# Altium schematic symbol library pwr_reg_pmic.SchLib: 30 symbols
Pins are listed as number, name and electrical type; pins without a type are passive.

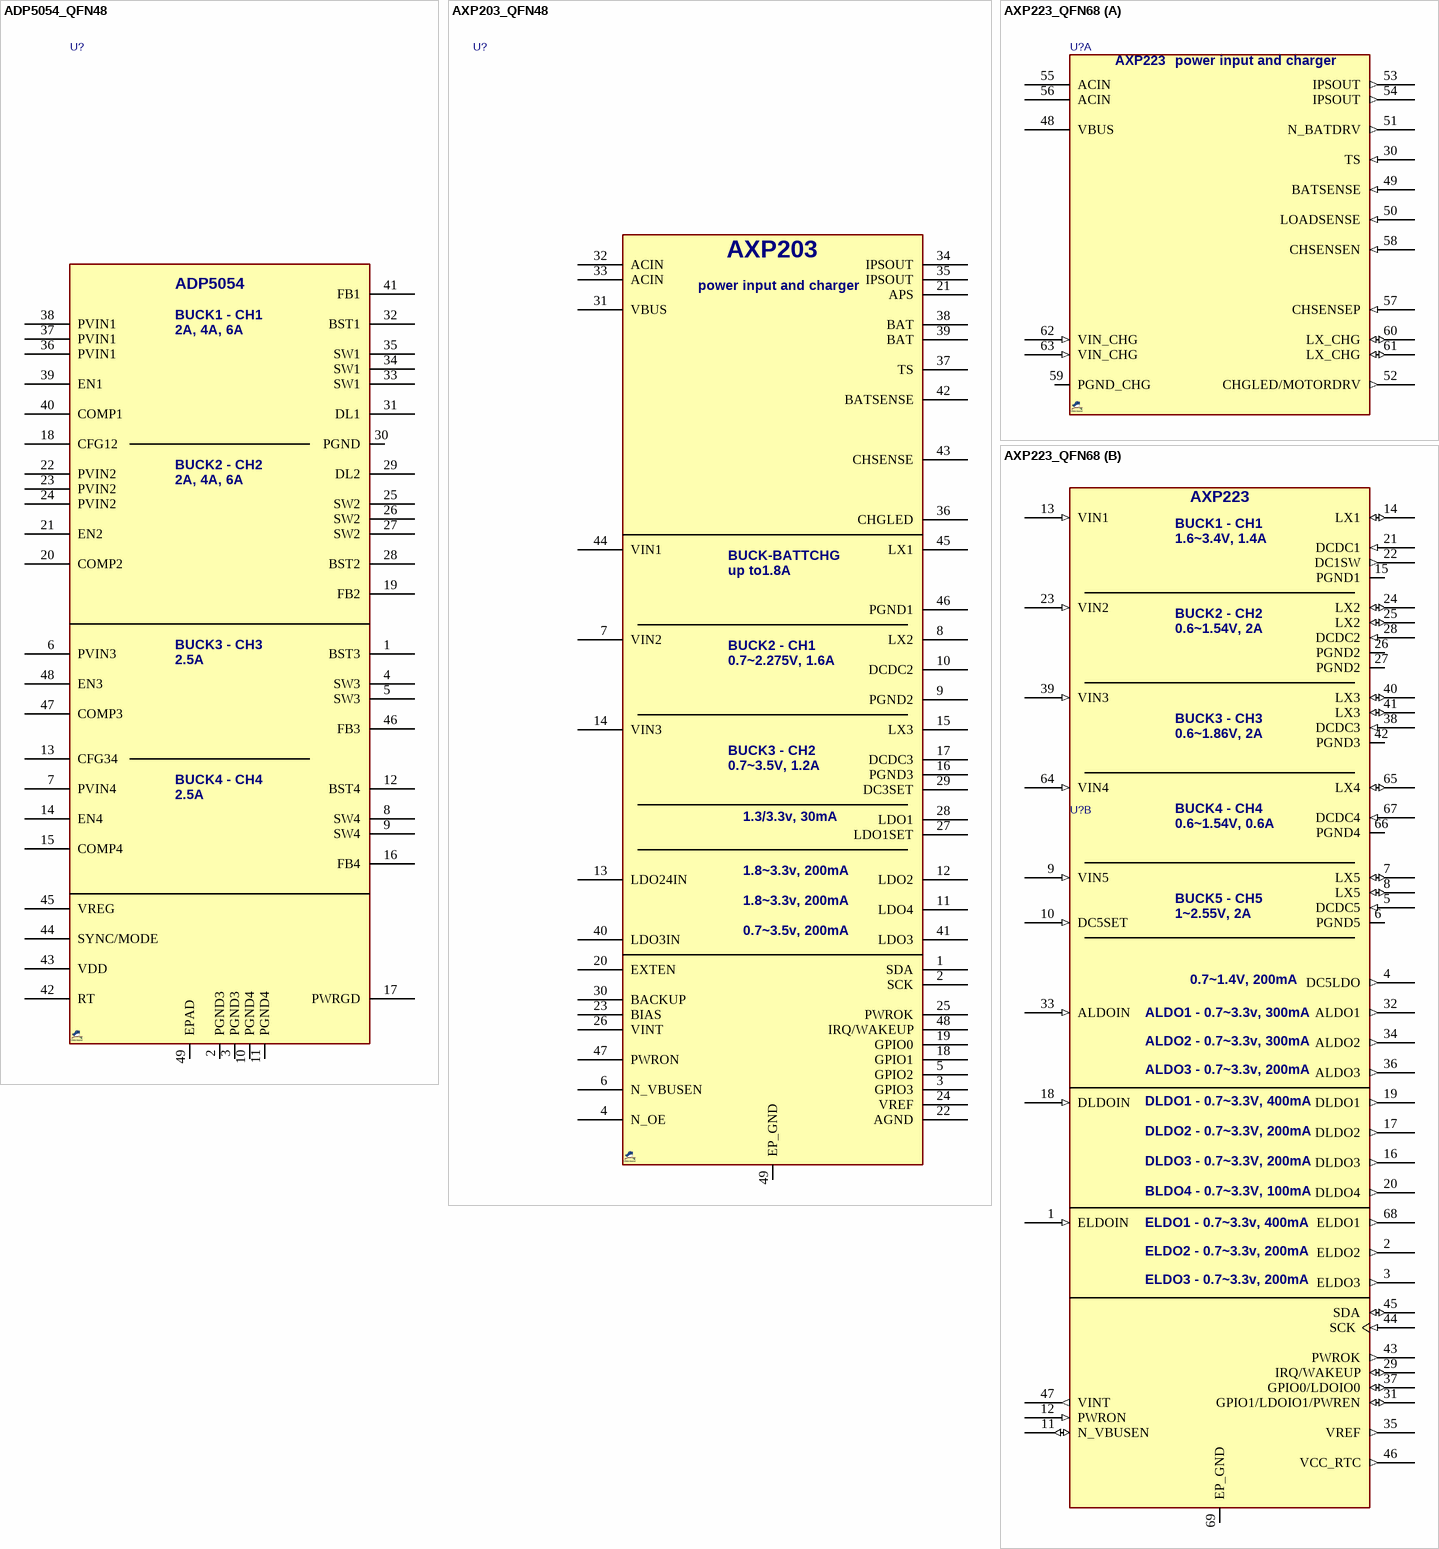
[diagram p0: symbols ADP5054_QFN48 to AXP223_QFN68]

## ADP5054_QFN48
designator U?, comment ADP5054  (value not drawn)
IC, Regulator PMIC, 4buck, 2x 6A, 2x 2.5A; MANF: Analog Device; MANF_P#: ADP5054ACPZ; PARAM2: 4.5~15Vin,; PARAM: 4buck, 2x 6A, 2x 2.5A, -40~125°C; PRICE: -; VALUE: ADP5054; PACKAGE: QFN-48, 0.5mm pitch
footprint QFN50_48T (CP-48 (Analog Device),, MO-220-VKKD-2(JEDEC), RGZ S-PQFP-N48, S-PWQFN-N48(TI), 7X7mm, 0.5mm)
pins: 1 BST3, 2 PGND3, 3 PGND3, 4 SW3, 5 SW3, 6 PVIN3, 7 PVIN4, 8 SW4, 9 SW4, 10 PGND4, 11 PGND4, 12 BST4, 13 CFG34, 14 EN4, 15 COMP4, 16 FB4, 17 PWRGD, 18 CFG12, 19 FB2, 20 COMP2, 21 EN2, 22 PVIN2, 23 PVIN2, 24 PVIN2, 25 SW2, 26 SW2, 27 SW2, 28 BST2, 29 DL2, 30 PGND, 31 DL1, 32 BST1, 33 SW1, 34 SW1, 35 SW1, 36 PVIN1, 37 PVIN1, 38 PVIN1, 39 EN1, 40 COMP1, 41 FB1, 42 RT, 43 VDD, 44 SYNC/MODE, 45 VREG, 46 FB3, 47 COMP3, 48 EN3, 49 EPAD
text: BUCK1 - CH1; 2A, 4A, 6A; BUCK2 - CH2; BUCK3 - CH3; 2.5A; BUCK4 - CH4

## AXP203_QFN48
designator U?, comment AXP203  (value not drawn)
IC, Regulator PMIC, 3DCDC + 5LDO; MANF: X-Powers; PARAM2: 2.9~6.3Vin, 3 DCDC + 5 LDO; PARAM: -40~85°C; MANF_P#: AXP203; PRICE: 1.2$; VALUE: AXP203; PACKAGE: QFN-48, 0.4mm pitch
footprint QFN40_48T (QFN, 48-Leads, Body 6.00x6.00mm, Pitch 0.40mm, Thermal Pad 4.40x4.40mm)
pins: 1 SDA, 2 SCK, 3 GPIO3, 4 N_OE, 5 GPIO2, 6 N_VBUSEN, 7 VIN2, 8 LX2, 9 PGND2, 10 DCDC2, 11 LDO4, 12 LDO2, 13 LDO24IN, 14 VIN3, 15 LX3, 16 PGND3, 17 DCDC3, 18 GPIO1, 19 GPIO0, 20 EXTEN, 21 APS, 22 AGND, 23 BIAS, 24 VREF, 25 PWROK, 26 VINT, 27 LDO1SET, 28 LDO1, 29 DC3SET, 30 BACKUP, 31 VBUS, 32 ACIN, 33 ACIN, 34 IPSOUT, 35 IPSOUT, 36 CHGLED, 37 TS, 38 BAT, 39 BAT, 40 LDO3IN, 41 LDO3, 42 BATSENSE, 43 CHSENSE, 44 VIN1, 45 LX1, 46 PGND1, 47 PWRON, 48 IRQ/WAKEUP, 49 EP_GND
text: power input and charger; BUCK-BATTCHG; up to1.8A; BUCK2 - CH1; 0.7~2.275V, 1.6A; BUCK3 - CH2; 0.7~3.5V, 1.2A; 1.3/3.3v, 30mA; 1.8~3.3v, 200mA; 0.7~3.5v, 200mA

## AXP223_QFN68
designator U?, comment AXP223  (value not drawn)
IC, Regulator PMIC, 5DCDC + 10LDO; MANF: X-Powers; PARAM2: 2.9~6.3Vin, 5 DCDC + 10 LDO; PARAM: -20~80°C; MANF_P#: AXP223; VALUE: AXP223; PACKAGE: QFN-68, 0.4mm pitch
footprint QFN40_68T (QFN-68, pitch 0.4mm, 8x8x0.75mm)
part A pins: 30 TS (in), 48 VBUS (power), 49 BATSENSE (in), 50 LOADSENSE (in), 51 N_BATDRV (out), 52 CHGLED/MOTORDRV (out), 53 IPSOUT (out), 54 IPSOUT (out), 55 ACIN (power), 56 ACIN (power), 57 CHSENSEP (in), 58 CHSENSEN (in), 59 PGND_CHG (power), 60 LX_CHG (io), 61 LX_CHG (io), 62 VIN_CHG (in), 63 VIN_CHG (in)
part B pins: 1 ELDOIN (in), 2 ELDO2 (out), 3 ELDO3 (out), 4 DC5LDO (out), 5 DCDC5 (in), 6 PGND5 (power), 7 LX5 (io), 8 LX5 (io), 9 VIN5 (in), 10 DC5SET (in), 11 N_VBUSEN (io), 12 PWRON (in), 13 VIN1 (in), 14 LX1 (io), 15 PGND1 (power), 16 DLDO3 (out), 17 DLDO2 (out), 18 DLDOIN (in), 19 DLDO1 (out), 20 DLDO4 (out), 21 DCDC1 (in), 22 DC1SW (out), 23 VIN2 (in), 24 LX2 (io), 25 LX2 (io), 26 PGND2 (power), 27 PGND2 (power), 28 DCDC2 (in), 29 IRQ/WAKEUP (io), 31 GPIO1/LDOIO1/PWREN (io), 32 ALDO1 (out), 33 ALDOIN (in), 34 ALDO2 (out), 35 VREF (out), 36 ALDO3 (out), 37 GPIO0/LDOIO0 (io), 38 DCDC3 (in), 39 VIN3 (in), 40 LX3 (io), 41 LX3 (io), 42 PGND3 (power), 43 PWROK (out), 44 SCK (in), 45 SDA (io), 46 VCC_RTC (out), 47 VINT (out), 64 VIN4 (in), 65 LX4 (io), 66 PGND4 (power), 67 DCDC4 (in), 68 ELDO1 (out), 69 EP_GND (power)
part A text: power input and charger
part B text: BUCK1 - CH1; 1.6~3.4V, 1.4A; BUCK2 - CH2; 0.6~1.54V, 2A; BUCK3 - CH3; 0.6~1.86V, 2A; BUCK4 - CH4; 0.6~1.54V, 0.6A; BUCK5 - CH5; 1~2.55V, 2A; 0.7~1.4V, 200mA; ALDO1 - 0.7~3.3v, 300mA; ALDO2 - 0.7~3.3v, 300mA; ALDO3 - 0.7~3.3v, 200mA; DLDO1 - 0.7~3.3V, 400mA; DLDO2 - 0.7~3.3V, 200mA; DLDO3 - 0.7~3.3V, 200mA; BLDO4 - 0.7~3.3V, 100mA; ELDO1 - 0.7~3.3v, 400mA; ELDO2 - 0.7~3.3v, 200mA; ELDO3 - 0.7~3.3v, 200mA

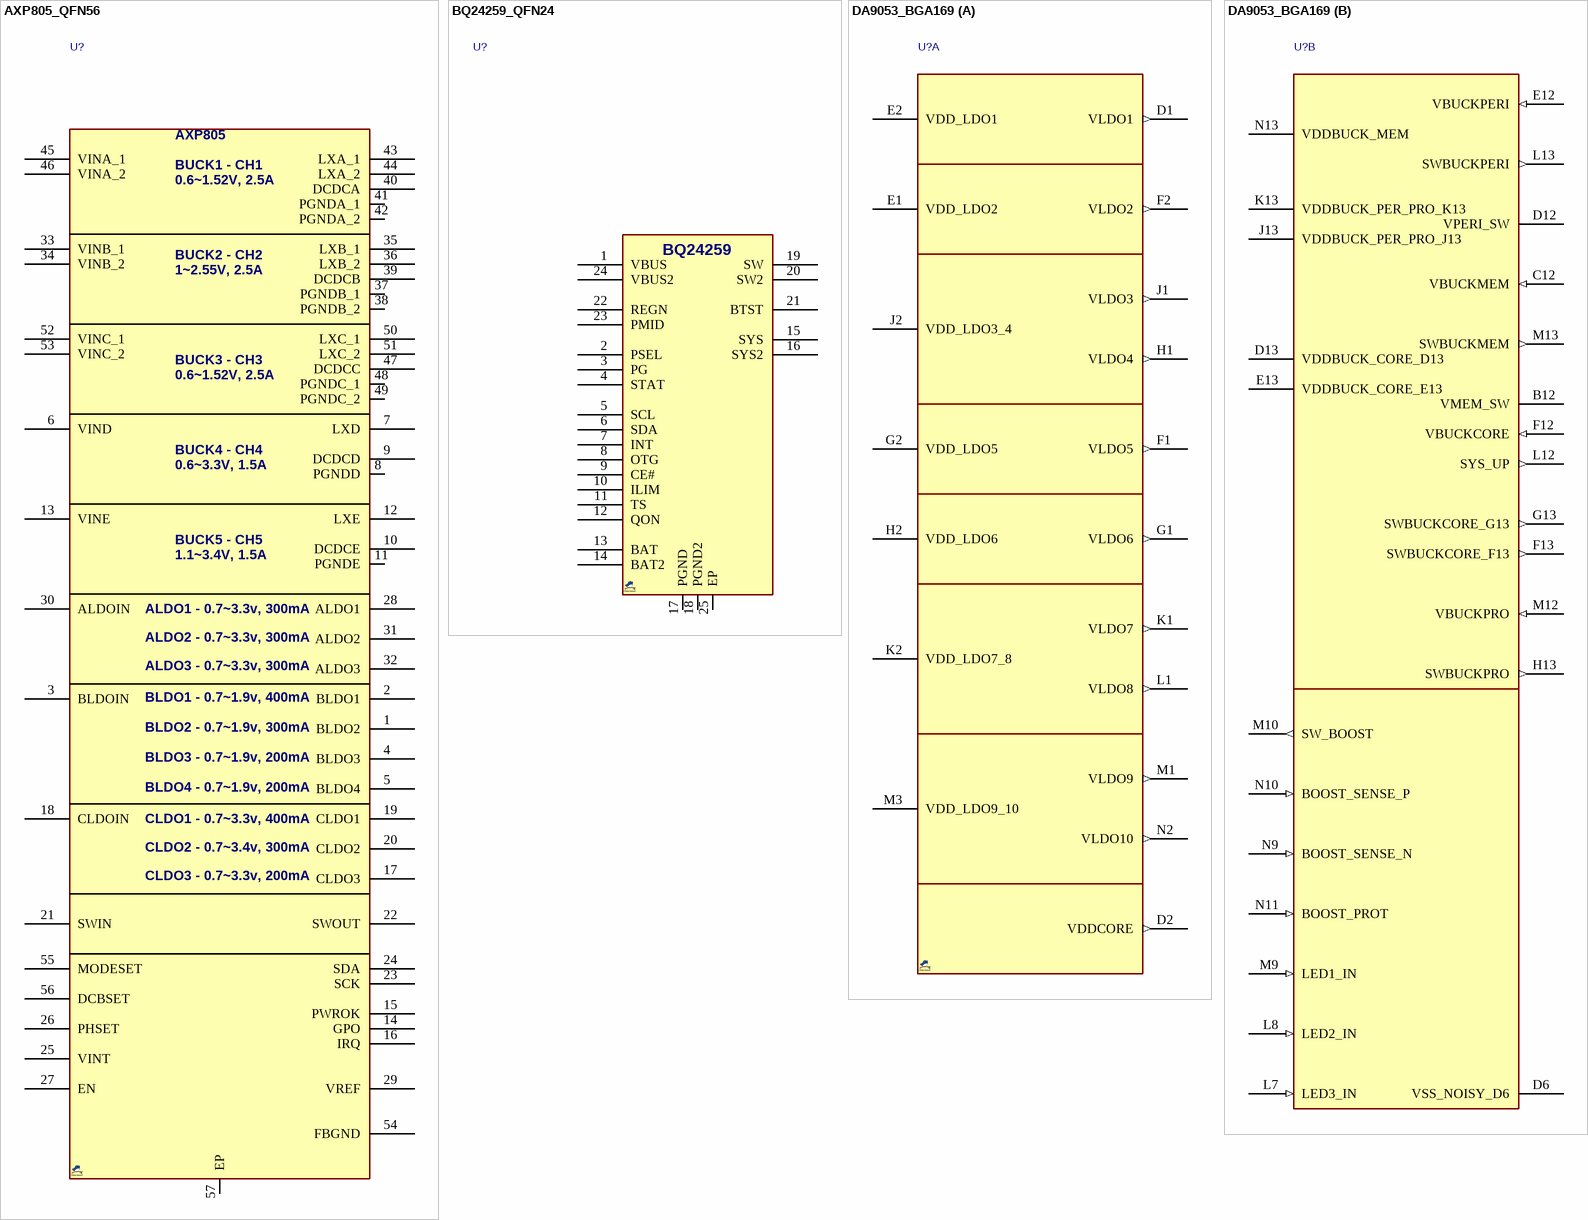
[diagram p1: symbols AXP805_QFN56 to DA9053_BGA169]

## AXP805_QFN56
designator U?, comment AXP805  (value not drawn)
IC, Regulator PMIC, 5DCDC, 10LDO; MANF: X-Powers; PARAM2: 3~5.5Vin, 5 DCDC/ 10 LDO; PARAM: -40~85°C; MANF_P#: AXP805; PRICE: 3$; VALUE: AXP805; PACKAGE: QFN-56, 0.4mm pitch
footprint QFN40_56T (QFN-56 7*7,  pitch: 0.4mm, 7x7x0.8mm)
pins: 1 BLDO2, 2 BLDO1, 3 BLDOIN, 4 BLDO3, 5 BLDO4, 6 VIND, 7 LXD, 8 PGNDD, 9 DCDCD, 10 DCDCE, 11 PGNDE, 12 LXE, 13 VINE, 14 GPO, 15 PWROK, 16 IRQ, 17 CLDO3, 18 CLDOIN, 19 CLDO1, 20 CLDO2, 21 SWIN, 22 SWOUT, 23 SCK, 24 SDA, 25 VINT, 26 PHSET, 27 EN, 28 ALDO1, 29 VREF, 30 ALDOIN, 31 ALDO2, 32 ALDO3, 33 VINB_1, 34 VINB_2, 35 LXB_1, 36 LXB_2, 37 PGNDB_1, 38 PGNDB_2, 39 DCDCB, 40 DCDCA, 41 PGNDA_1, 42 PGNDA_2, 43 LXA_1, 44 LXA_2, 45 VINA_1, 46 VINA_2, 47 DCDCC, 48 PGNDC_1, 49 PGNDC_2, 50 LXC_1, 51 LXC_2, 52 VINC_1, 53 VINC_2, 54 FBGND, 55 MODESET, 56 DCBSET, 57 EP
text: BUCK1 - CH1; 0.6~1.52V, 2.5A; BUCK2 - CH2; 1~2.55V, 2.5A; BUCK3 - CH3; BUCK4 - CH4; 0.6~3.3V, 1.5A; BUCK5 - CH5; 1.1~3.4V, 1.5A; ALDO1 - 0.7~3.3v, 300mA; ALDO2 - 0.7~3.3v, 300mA; ALDO3 - 0.7~3.3v, 300mA; BLDO1 - 0.7~1.9v, 400mA; BLDO2 - 0.7~1.9v, 300mA; BLDO3 - 0.7~1.9v, 200mA; BLDO4 - 0.7~1.9v, 200mA; CLDO1 - 0.7~3.3v, 400mA; CLDO2 - 0.7~3.4v, 300mA; CLDO3 - 0.7~3.3v, 200mA

## BQ24259_QFN24
designator U?, comment BQ24259  (value not drawn)
IC, CHARGER and Boost for USB mobile; MANF: Texas Instruments; MANF_P#: BQ24259RGE; PARAM: 2A chg, 1.5A boost, -40~85°C; PARAM2: -; PRICE: 0.5$; VALUE: BQ24259; PACKAGE: VQFN-24
footprint QFN50_24T (RTW, RGE S-PQFP-N24 (TI), HVQFN24, 4X4mm, 0.5mm, MO-220 (JEDEC))
pins: 1 VBUS, 2 PSEL, 3 PG, 4 STAT, 5 SCL, 6 SDA, 7 INT, 8 OTG, 9 CE#, 10 ILIM, 11 TS, 12 QON, 13 BAT, 14 BAT2, 15 SYS, 16 SYS2, 17 PGND, 18 PGND2, 19 SW, 20 SW2, 21 BTST, 22 REGN, 23 PMID, 24 VBUS2, 25 EP

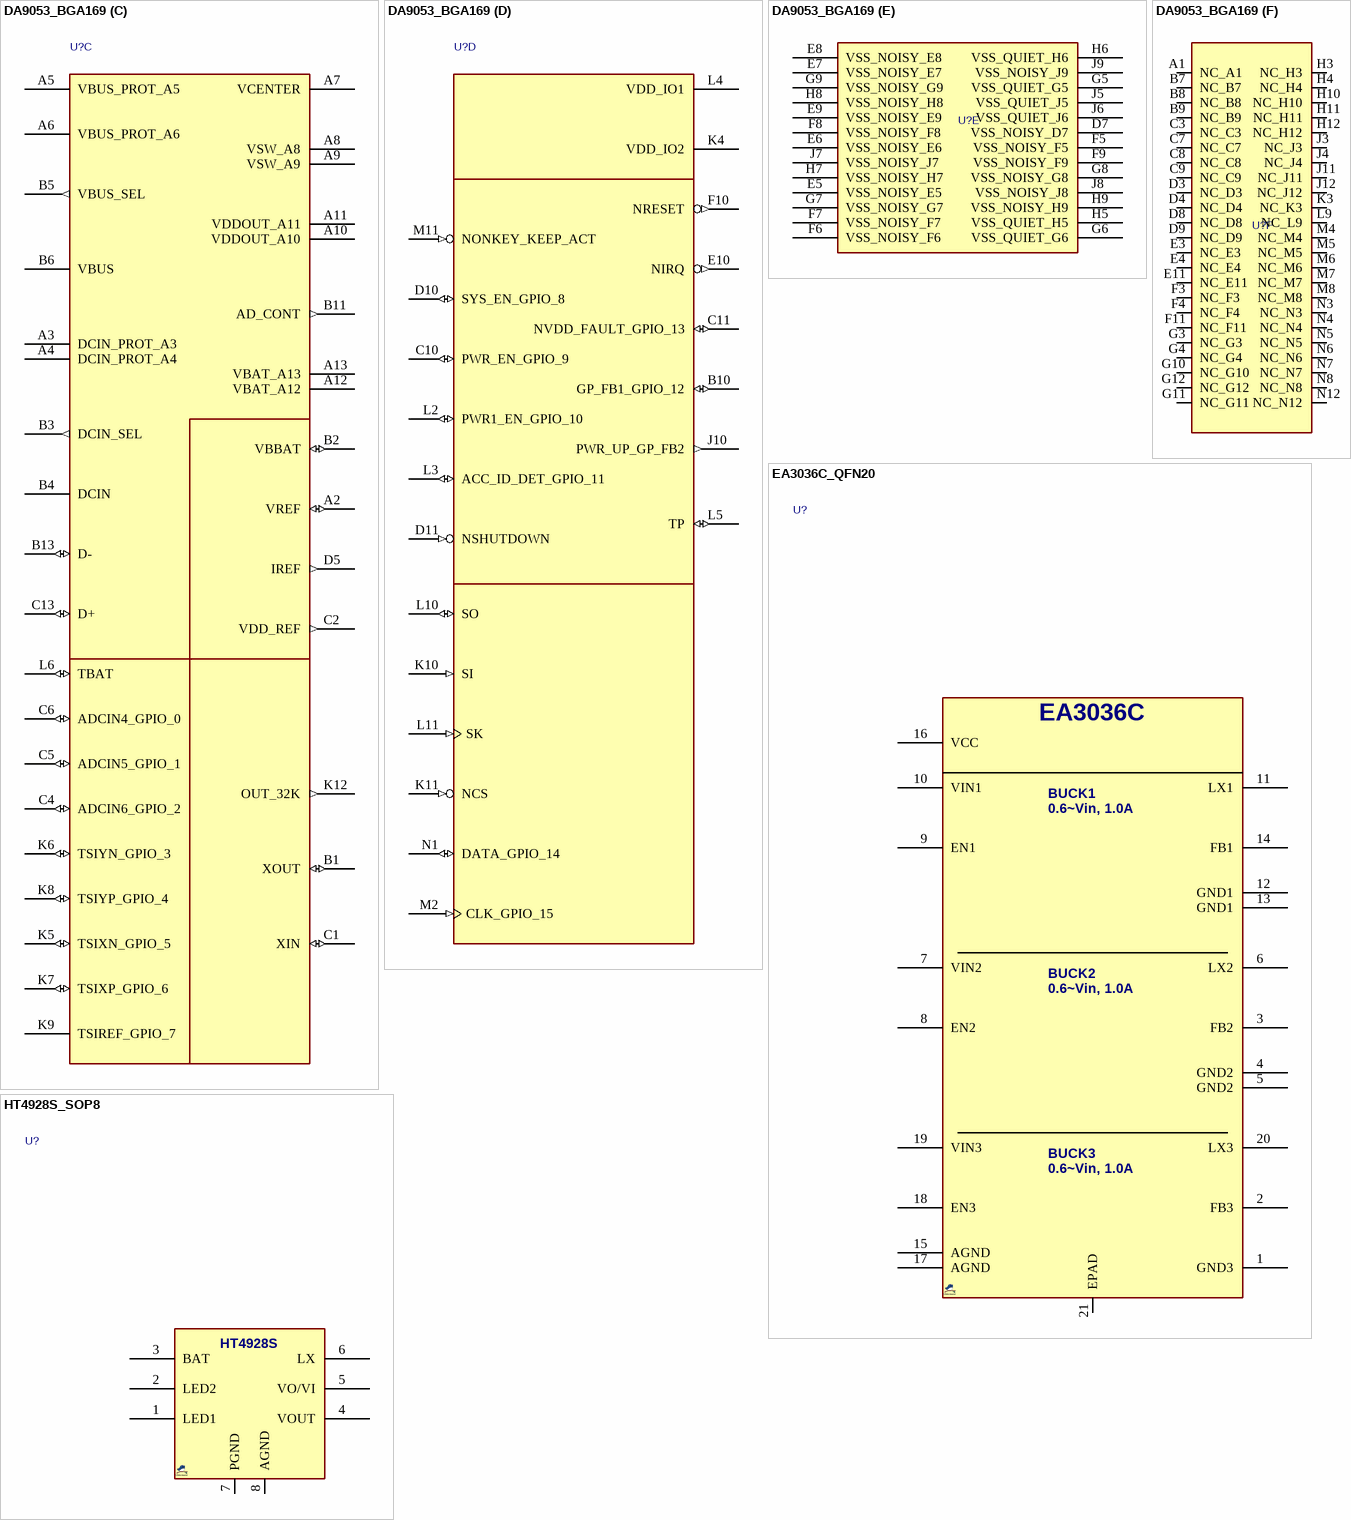
[diagram p2: symbols DA9053_BGA169 to HT4928S_SOP8]

## DA9053_BGA169
designator U?, comment DA9053  (value not drawn)
IC, Regulator PMIC, sw USB PWR MANAGER 5.5V VFBGA169; MANF: Dialog Semiconductor; MANF_P#: DA9053-XXC51; VALUE: DA9053; PACKAGE: BGA-169, 0.8mm pitch
footprint BGA80_169_S11
part A pins: D1 VLDO1 (out), D2 VDDCORE (out), E1 VDD_LDO2 (power), E2 VDD_LDO1 (power), F1 VLDO5 (out), F2 VLDO2 (out), G1 VLDO6 (out), G2 VDD_LDO5 (power), H1 VLDO4 (out), H2 VDD_LDO6 (power), J1 VLDO3 (out), J2 VDD_LDO3_4 (power), K1 VLDO7 (out), K2 VDD_LDO7_8 (power), L1 VLDO8 (out), M1 VLDO9 (out), M3 VDD_LDO9_10 (power), N2 VLDO10 (out)
part B pins: B12 VMEM_SW (power), C12 VBUCKMEM (in), D6 VSS_NOISY_D6 (power), D12 VPERI_SW (power), D13 VDDBUCK_CORE_D13 (power), E12 VBUCKPERI (in), E13 VDDBUCK_CORE_E13 (power), F12 VBUCKCORE (in), F13 SWBUCKCORE_F13 (out), G13 SWBUCKCORE_G13 (out), H13 SWBUCKPRO (out), J13 VDDBUCK_PER_PRO_J13 (power), K13 VDDBUCK_PER_PRO_K13 (power), L7 LED3_IN (in), L8 LED2_IN (in), L12 SYS_UP (out), L13 SWBUCKPERI (out), M9 LED1_IN (in), M10 SW_BOOST (out), M12 VBUCKPRO (in), M13 SWBUCKMEM (out), N9 BOOST_SENSE_N (in), N10 BOOST_SENSE_P (in), N11 BOOST_PROT (in), N13 VDDBUCK_MEM (power)
part C pins: A2 VREF (io), A3 DCIN_PROT_A3 (power), A4 DCIN_PROT_A4 (power), A5 VBUS_PROT_A5 (power), A6 VBUS_PROT_A6 (power), A7 VCENTER (power), A8 VSW_A8 (power), A9 VSW_A9 (power), A10 VDDOUT_A10 (power), A11 VDDOUT_A11 (power), A12 VBAT_A12 (power), A13 VBAT_A13 (power), B1 XOUT (io), B2 VBBAT (io), B3 DCIN_SEL (out), B4 DCIN (power), B5 VBUS_SEL (out), B6 VBUS (power), B11 AD_CONT (out), B13 D- (io), C1 XIN (io), C2 VDD_REF (out), C4 ADCIN6_GPIO_2 (io), C5 ADCIN5_GPIO_1 (io), C6 ADCIN4_GPIO_0 (io), C13 D+ (io), D5 IREF (out), K5 TSIXN_GPIO_5 (io), K6 TSIYN_GPIO_3 (io), K7 TSIXP_GPIO_6 (io), K8 TSIYP_GPIO_4 (io), K9 TSIREF_GPIO_7 (power), K12 OUT_32K (out), L6 TBAT (io)
part D pins: B10 GP_FB1_GPIO_12 (io), C10 PWR_EN_GPIO_9 (io), C11 NVDD_FAULT_GPIO_13 (io), D10 SYS_EN_GPIO_8 (io), D11 NSHUTDOWN (in), E10 NIRQ (out), F10 NRESET (out), J10 PWR_UP_GP_FB2 (out), K4 VDD_IO2 (power), K10 SI (in), K11 NCS (in), L2 PWR1_EN_GPIO_10 (io), L3 ACC_ID_DET_GPIO_11 (io), L4 VDD_IO1 (power), L5 TP (io), L10 SO (io), L11 SK (in), M2 CLK_GPIO_15 (in), M11 NONKEY_KEEP_ACT (in), N1 DATA_GPIO_14 (io)
part E pins: D7 VSS_NOISY_D7 (power), E5 VSS_NOISY_E5 (power), E6 VSS_NOISY_E6 (power), E7 VSS_NOISY_E7 (power), E8 VSS_NOISY_E8 (power), E9 VSS_NOISY_E9 (power), F5 VSS_NOISY_F5 (power), F6 VSS_NOISY_F6 (power), F7 VSS_NOISY_F7 (power), F8 VSS_NOISY_F8 (power), F9 VSS_NOISY_F9 (power), G5 VSS_QUIET_G5 (power), G6 VSS_QUIET_G6 (power), G7 VSS_NOISY_G7 (power), G8 VSS_NOISY_G8 (power), G9 VSS_NOISY_G9 (power), H5 VSS_QUIET_H5 (power), H6 VSS_QUIET_H6 (power), H7 VSS_NOISY_H7 (power), H8 VSS_NOISY_H8 (power), H9 VSS_NOISY_H9 (power), J5 VSS_QUIET_J5 (power), J6 VSS_QUIET_J6 (power), J7 VSS_NOISY_J7 (power), J8 VSS_NOISY_J8 (power), J9 VSS_NOISY_J9 (power)
part F pins: A1 NC_A1, B7 NC_B7, B8 NC_B8, B9 NC_B9, C3 NC_C3, C7 NC_C7, C8 NC_C8, C9 NC_C9, D3 NC_D3, D4 NC_D4, D8 NC_D8, D9 NC_D9, E3 NC_E3, E4 NC_E4, E11 NC_E11, F3 NC_F3, F4 NC_F4, F11 NC_F11, G3 NC_G3, G4 NC_G4, G10 NC_G10, G11 NC_G11, G12 NC_G12, H3 NC_H3, H4 NC_H4, H10 NC_H10, H11 NC_H11, H12 NC_H12, J3 NC_J3, J4 NC_J4, J11 NC_J11, J12 NC_J12, K3 NC_K3, L9 NC_L9, M4 NC_M4, M5 NC_M5, M6 NC_M6, M7 NC_M7, M8 NC_M8, N3 NC_N3, N4 NC_N4, N5 NC_N5, N6 NC_N6, N7 NC_N7, N8 NC_N8, N12 NC_N12

## EA3036C_QFN20
designator U?, comment EA3036C  (value not drawn)
IC, Regulator PMIC, 3DCDC 1.5MHz, total must be under 6W; MANF: Everanalog; MANF_P#: EA3036CQBR; PARAM2: 2.7~5.5Vin, 3 DCDC 1.5MHz; PARAM: -40~85°C; PRICE: 0.2$; VALUE: EA3036C; PACKAGE: QFN-20, 0.4mm pitch
footprint QFN40_20T (QFN, RUK, PWQFN, 20-Leads, Body 3X3mm, Pitch 0.40mm)
pins: 1 GND3, 2 FB3, 3 FB2, 4 GND2, 5 GND2, 6 LX2, 7 VIN2, 8 EN2, 9 EN1, 10 VIN1, 11 LX1, 12 GND1, 13 GND1, 14 FB1, 15 AGND, 16 VCC, 17 AGND, 18 EN3, 19 VIN3, 20 LX3, 21 EPAD
text: BUCK1; 0.6~Vin, 1.0A; BUCK2; BUCK3

## HT4928S_SOP8
designator U?, comment HT4928S  (value not drawn)
IC, CHARGER and Boost for USB mobile; MANF: HOTCHIP; PARAM: 0.8A, 1MHz, -40~85°C; MANF_P#: HT4928S; PARAM2: -; PRICE: 0.35$; VALUE: HT4928S; PACKAGE: SOP-8
footprint SO_8 (SOP-8, 5x3.9mm body 1.27mm pitch, SOT96-1, M08A, S8, SOIC8, VO8, MS-012AA(JEDEC), R-8, 8S2, VOG8)
pins: 1 LED1, 2 LED2, 3 BAT, 4 VOUT, 5 VO/VI, 6 LX, 7 PGND, 8 AGND

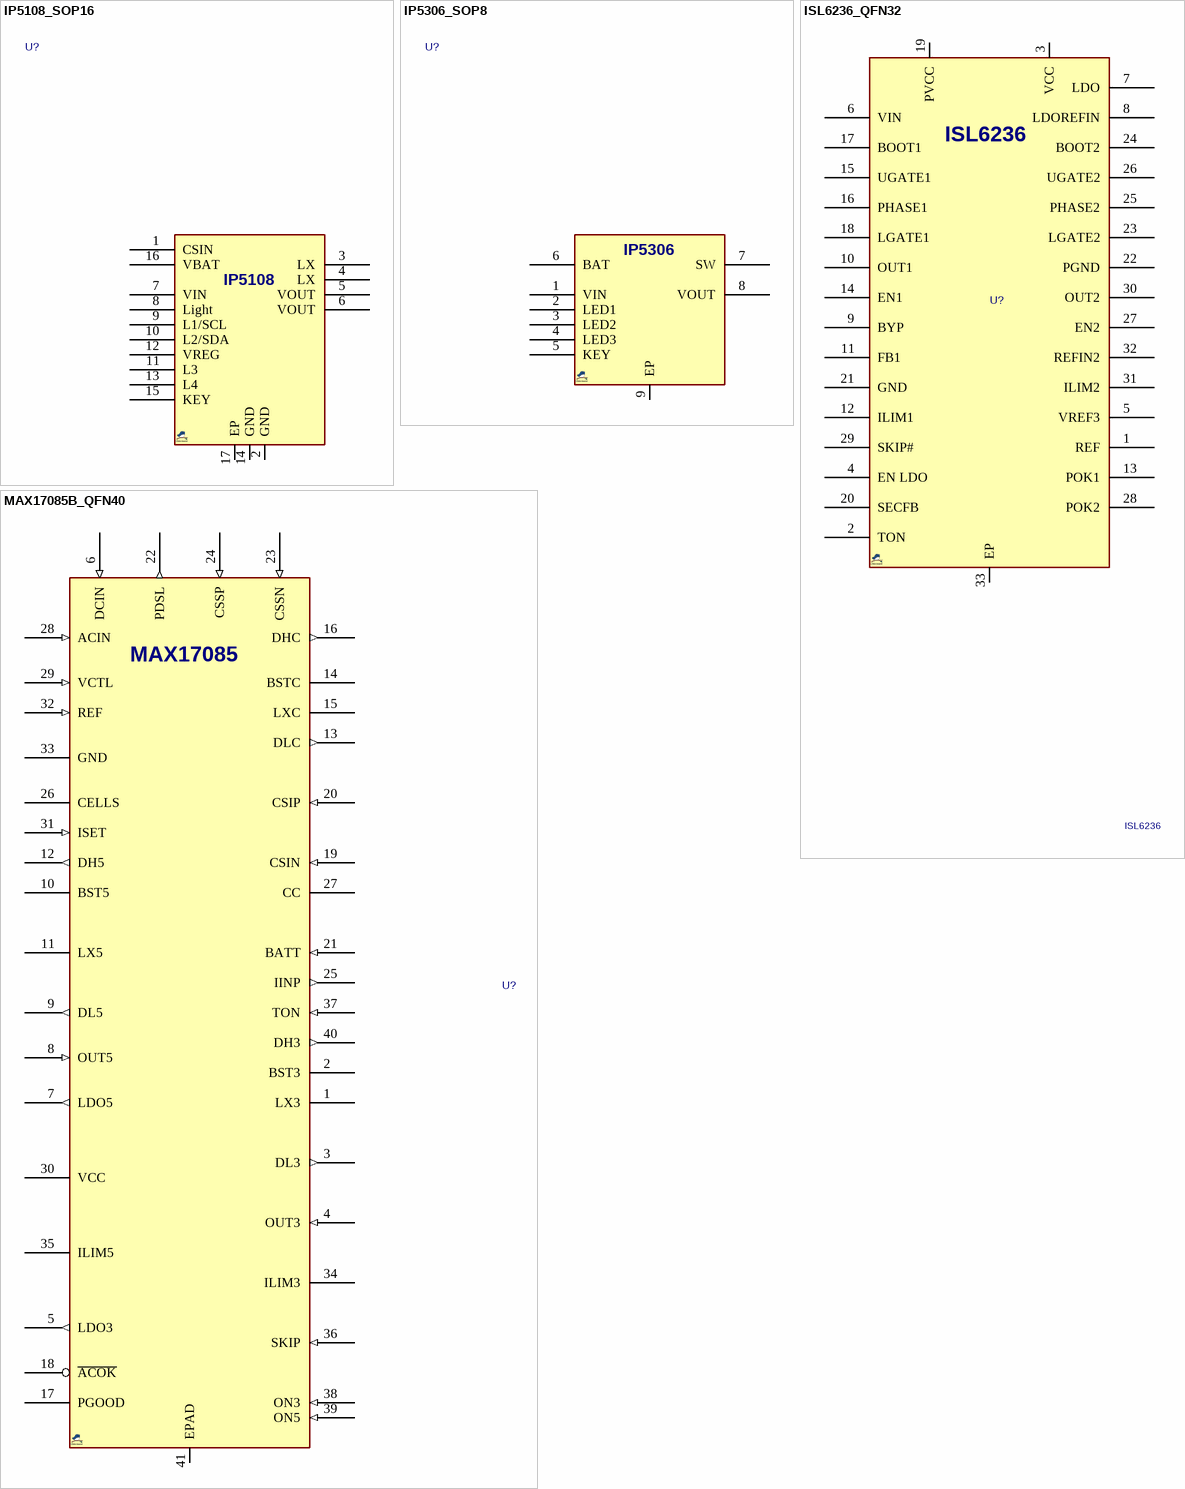
[diagram p3: symbols IP5108_SOP16 to MAX17085B_QFN40]

## IP5108_SOP16
designator U?, comment IP5108  (value not drawn)
IC, CHARGER and Boost for USB mobile; MANF: INJOINIC; PARAM: 2.1A chg, 2.4A boost, 0~70°C; MANF_P#: IP5108; PARAM2: -; PRICE: 0.2$; VALUE: IP5108; PACKAGE: eSOP-8
footprint SO_16T (SOP, SOIC, 3.9mm width, 1.27mm pitch,)
pins: 1 CSIN, 2 GND, 3 LX, 4 LX, 5 VOUT, 6 VOUT, 7 VIN, 8 Light, 9 L1/SCL, 10 L2/SDA, 11 L3, 12 VREG, 13 L4, 14 GND, 15 KEY, 16 VBAT, 17 EP

## IP5306_SOP8
designator U?, comment IP5306  (value not drawn)
IC, CHARGER and Boost for USB mobile; PARAM: 2.1A chg, 2.4A boost, 0~70°C; MANF_P#: IP5306; PARAM2: -; PRICE: 0.2$; VALUE: IP5306; PACKAGE: eSOP-8
footprint SO_8T (SOP-8, 5x3.9mm body 1.27mm pitch, DDA, SO PowerPAD)
pins: 1 VIN, 2 LED1, 3 LED2, 4 LED3, 5 KEY, 6 BAT, 7 SW, 8 VOUT, 9 EP

## ISL6236_QFN32
designator U?, comment ISL6236
IC, Regulator PMIC, 4 output; MANF: Intersil; MANF_P#: ISL6236AIRZ; PARAM2: 4.5V~25Vin, 4 Vout; PARAM: -40~100°C; VALUE: ISL6236; PRICE: 5$; PACKAGE: QFN-32, 0.5mm pitch
footprint QFN50_32T (QFN, 32, 5X5mm, 0.5mm)
pins: 1 REF, 2 TON, 3 VCC, 4 EN LDO, 5 VREF3, 6 VIN, 7 LDO, 8 LDOREFIN, 9 BYP, 10 OUT1, 11 FB1, 12 ILIM1, 13 POK1, 14 EN1, 15 UGATE1, 16 PHASE1, 17 BOOT1, 18 LGATE1, 19 PVCC, 20 SECFB, 21 GND, 22 PGND, 23 LGATE2, 24 BOOT2, 25 PHASE2, 26 UGATE2, 27 EN2, 28 POK2, 29 SKIP#, 30 OUT2, 31 ILIM2, 32 REFIN2, 33 EP

## MAX17085B_QFN40
designator U?, comment MAX17085  (value not drawn)
IC, Regulator PMIC, CHARGER, 2 LDO 3.3/5V + 2 buck, TQFN40; MANF: Maxim; MANF_P#: MAX17085BETL+; PARAM2: 2 buck, 1.4MHZ; VALUE: MAX17085; PACKAGE: QFN-40, 0.4mm pitch
footprint QFN40_40T (40 TQFN-EP (maxim), 5X5mm, 0.4mm)
pins: 1 LX3, 2 BST3, 3 DL3 (out), 4 OUT3 (in), 5 LDO3 (out), 6 DCIN (in), 7 LDO5 (out), 8 OUT5 (in), 9 DL5 (out), 10 BST5, 11 LX5, 12 DH5 (out), 13 DLC (out), 14 BSTC, 15 LXC, 16 DHC (out), 17 PGOOD (oc), 18 ~{ACOK} (oc), 19 CSIN (in), 20 CSIP (in), 21 BATT (in), 22 PDSL (out), 23 CSSN (in), 24 CSSP (in), 25 IINP (out), 26 CELLS, 27 CC, 28 ACIN (in), 29 VCTL (in), 30 VCC (power), 31 ISET (in), 32 REF (in), 33 GND (power), 34 ILIM3, 35 ILIM5, 36 SKIP (in), 37 TON (in), 38 ON3 (in), 39 ON5 (in), 40 DH3 (out), 41 EPAD (power)

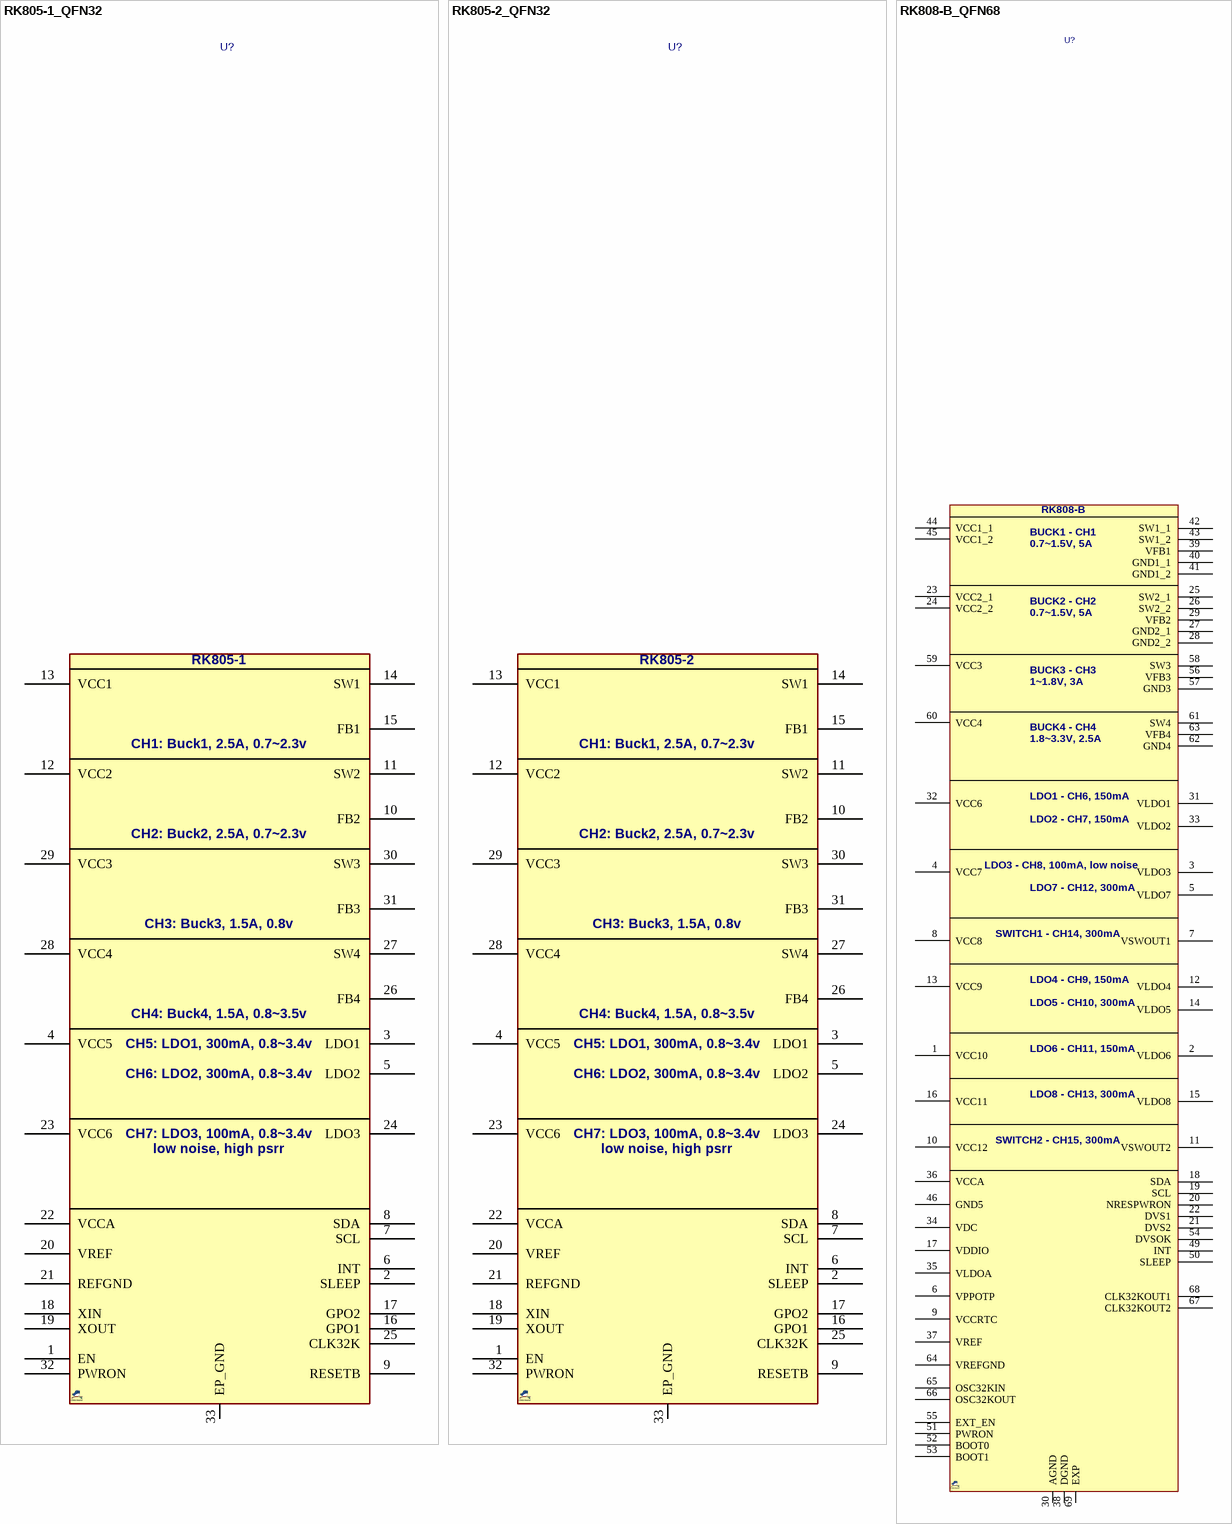
[diagram p4: symbols RK805-1_QFN32 to RK808-B_QFN68]

## RK805-1_QFN32
designator U?, comment RK805-1  (value not drawn)
IC, Regulator PMIC, for RK3228; MANF: Rockchip; PARAM2: 2.75~5.5Vin, 4 DCDC/ 3 LDO; PARAM: RK3228, -40~85°C; MANF_P#: RK805-1; PRICE: -; VALUE: RK805-1; PACKAGE: QFN-32, 0.4mm pitch
footprint QFN40_32T (QFN, 32M3, 32-Leads, Body 4x4mm, Pitch 0.40mm)
pins: 1 EN, 2 SLEEP, 3 LDO1, 4 VCC5, 5 LDO2, 6 INT, 7 SCL, 8 SDA, 9 RESETB, 10 FB2, 11 SW2, 12 VCC2, 13 VCC1, 14 SW1, 15 FB1, 16 GPO1, 17 GPO2, 18 XIN, 19 XOUT, 20 VREF, 21 REFGND, 22 VCCA, 23 VCC6, 24 LDO3, 25 CLK32K, 26 FB4, 27 SW4, 28 VCC4, 29 VCC3, 30 SW3, 31 FB3, 32 PWRON, 33 EP_GND
text: CH1: Buck1, 2.5A, 0.7~2.3v; CH2: Buck2, 2.5A, 0.7~2.3v; CH3: Buck3, 1.5A, 0.8v; CH4: Buck4, 1.5A, 0.8~3.5v; CH5: LDO1, 300mA, 0.8~3.4v; CH6: LDO2, 300mA, 0.8~3.4v; CH7: LDO3, 100mA, 0.8~3.4v; low noise, high psrr

## RK805-2_QFN32
designator U?, comment RK805-2  (value not drawn)
IC, Regulator PMIC, for RK1108; MANF: Rockchip; PARAM2: 2.75~5.5Vin, 4 DCDC/ 3 LDO; PARAM: RK1108, -40~85°C; MANF_P#: RK805-2; PRICE: -; VALUE: RK805-2; PACKAGE: QFN-32, 0.4mm pitch
footprint QFN40_32T (QFN, 32M3, 32-Leads, Body 4x4mm, Pitch 0.40mm)
pins: 1 EN, 2 SLEEP, 3 LDO1, 4 VCC5, 5 LDO2, 6 INT, 7 SCL, 8 SDA, 9 RESETB, 10 FB2, 11 SW2, 12 VCC2, 13 VCC1, 14 SW1, 15 FB1, 16 GPO1, 17 GPO2, 18 XIN, 19 XOUT, 20 VREF, 21 REFGND, 22 VCCA, 23 VCC6, 24 LDO3, 25 CLK32K, 26 FB4, 27 SW4, 28 VCC4, 29 VCC3, 30 SW3, 31 FB3, 32 PWRON, 33 EP_GND
text: CH1: Buck1, 2.5A, 0.7~2.3v; CH2: Buck2, 2.5A, 0.7~2.3v; CH3: Buck3, 1.5A, 0.8v; CH4: Buck4, 1.5A, 0.8~3.5v; CH5: LDO1, 300mA, 0.8~3.4v; CH6: LDO2, 300mA, 0.8~3.4v; CH7: LDO3, 100mA, 0.8~3.4v; low noise, high psrr

## RK808-B_QFN68
designator U?, comment RK808  (value not drawn)
IC, Regulator PMIC, RK3288/RK3368; MANF: Rockchip; MANF_P#: RK808-B; PARAM2: 2.75~5.5Vin, 4 DCDC/ 8 LDO, 2 switch; PARAM: RK3288/RK3368, -40~85°C; PRICE: -; VALUE: RK808; PACKAGE: QFN-68, 0.35mm pitch
footprint QFN35_68T (QFN, 68-Leads, 7x7mm, Pitch 0.35mm,)
pins: 1 VCC10, 2 VLDO6, 3 VLDO3, 4 VCC7, 5 VLDO7, 6 VPPOTP, 7 VSWOUT1, 8 VCC8, 9 VCCRTC, 10 VCC12, 11 VSWOUT2, 12 VLDO4, 13 VCC9, 14 VLDO5, 15 VLDO8, 16 VCC11, 17 VDDIO, 18 SDA, 19 SCL, 20 NRESPWRON, 21 DVS2, 22 DVS1, 23 VCC2_1, 24 VCC2_2, 25 SW2_1, 26 SW2_2, 27 GND2_1, 28 GND2_2, 29 VFB2, 30 AGND, 31 VLDO1, 32 VCC6, 33 VLDO2, 34 VDC, 35 VLDOA, 36 VCCA, 37 VREF, 38 DGND, 39 VFB1, 40 GND1_1, 41 GND1_2, 42 SW1_1, 43 SW1_2, 44 VCC1_1, 45 VCC1_2, 46 GND5, 49 INT, 50 SLEEP, 51 PWRON, 52 BOOT0, 53 BOOT1, 54 DVSOK, 55 EXT_EN, 56 VFB3, 57 GND3, 58 SW3, 59 VCC3, 60 VCC4, 61 SW4, 62 GND4, 63 VFB4, 64 VREFGND, 65 OSC32KIN, 66 OSC32KOUT, 67 CLK32KOUT2, 68 CLK32KOUT1, 69 EXP
text: BUCK1 - CH1; 0.7~1.5V, 5A; BUCK2 - CH2; BUCK3 - CH3; 1~1.8V, 3A; BUCK4 - CH4; 1.8~3.3V, 2.5A; LDO1 - CH6, 150mA; LDO2 - CH7, 150mA; LDO3 - CH8, 100mA, low noise; LDO7 - CH12, 300mA; SWITCH1 - CH14, 300mA; LDO4 - CH9, 150mA; LDO5 - CH10, 300mA; LDO6 - CH11, 150mA; LDO8 - CH13, 300mA; SWITCH2 - CH15, 300mA

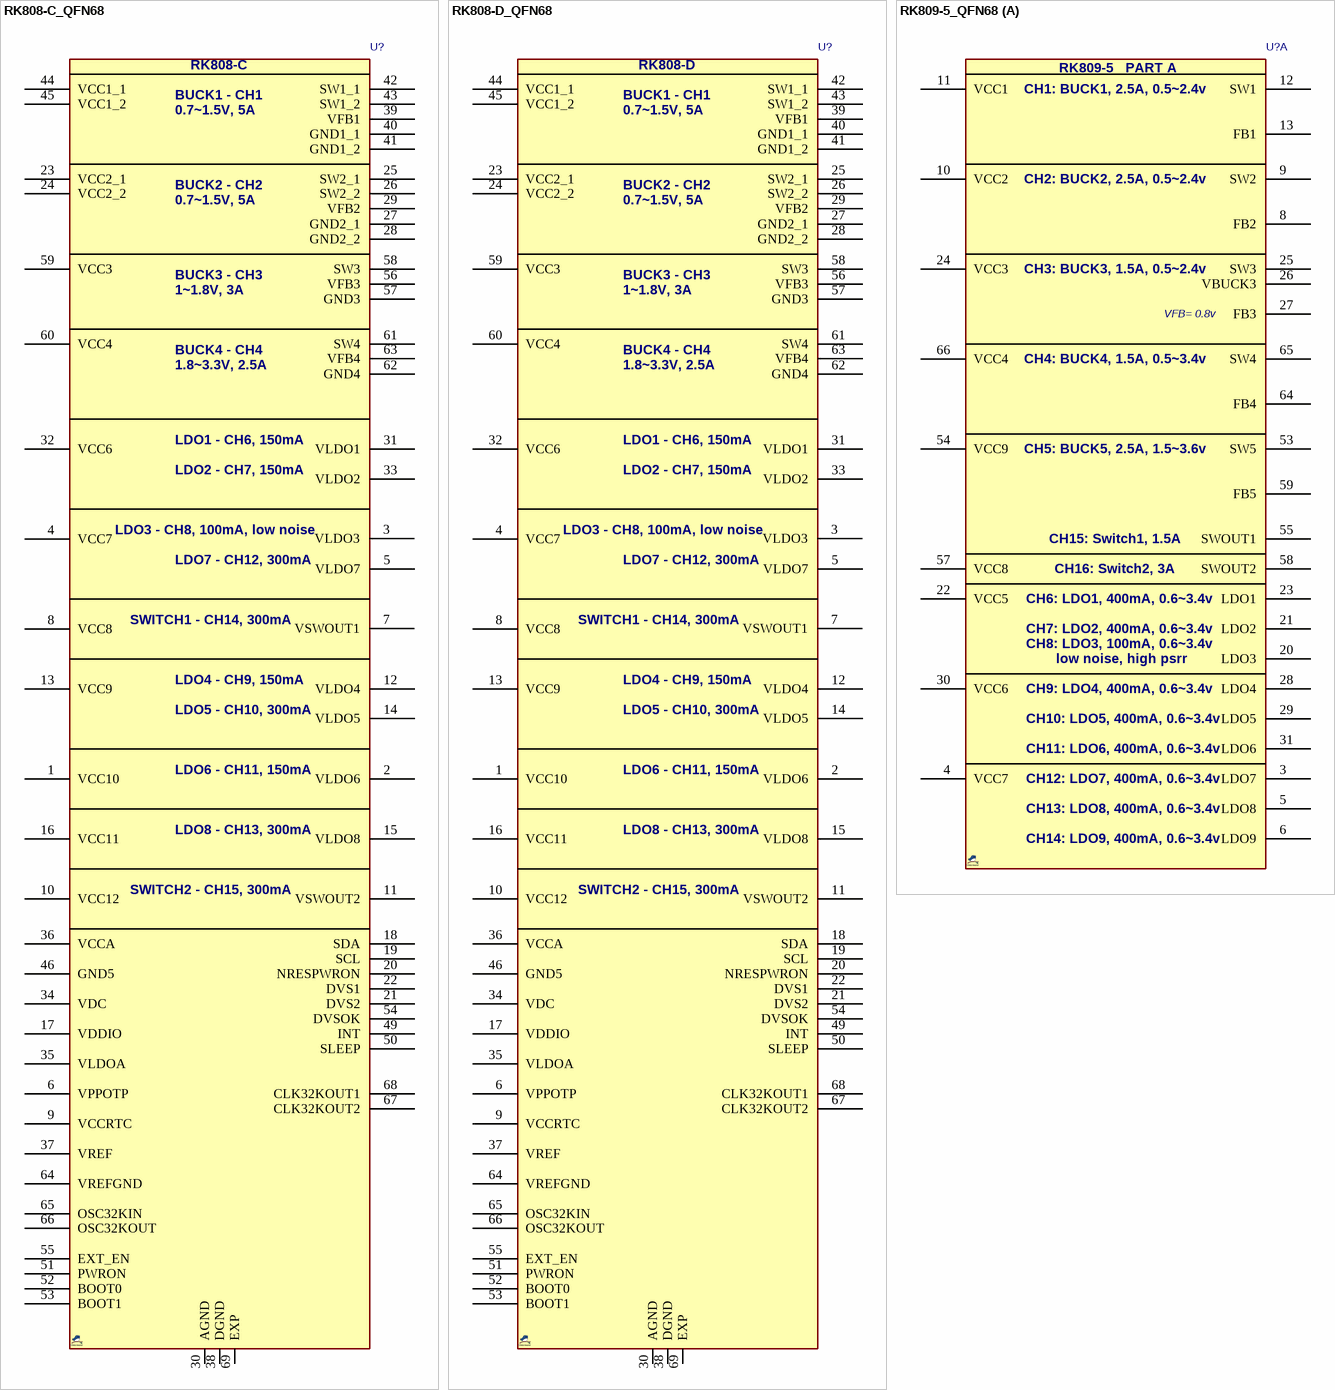
[diagram p5: symbols RK808-C_QFN68 to RK809-5_QFN68]

## RK808-C_QFN68
designator U?, comment RK808  (value not drawn)
IC, Regulator PMIC, 3288C; MANF: Rockchip; MANF_P#: RK808-C; PARAM2: 2.75~5.5Vin, 4 DCDC/ 8 LDO, 2 switch; PARAM: For RK3288 C, -40~85°C; PRICE: -; VALUE: RK808; PACKAGE: QFN-68, 0.35mm pitch
footprint QFN35_68T (QFN, 68-Leads, 7x7mm, Pitch 0.35mm,)
pins: 1 VCC10, 2 VLDO6, 3 VLDO3, 4 VCC7, 5 VLDO7, 6 VPPOTP, 7 VSWOUT1, 8 VCC8, 9 VCCRTC, 10 VCC12, 11 VSWOUT2, 12 VLDO4, 13 VCC9, 14 VLDO5, 15 VLDO8, 16 VCC11, 17 VDDIO, 18 SDA, 19 SCL, 20 NRESPWRON, 21 DVS2, 22 DVS1, 23 VCC2_1, 24 VCC2_2, 25 SW2_1, 26 SW2_2, 27 GND2_1, 28 GND2_2, 29 VFB2, 30 AGND, 31 VLDO1, 32 VCC6, 33 VLDO2, 34 VDC, 35 VLDOA, 36 VCCA, 37 VREF, 38 DGND, 39 VFB1, 40 GND1_1, 41 GND1_2, 42 SW1_1, 43 SW1_2, 44 VCC1_1, 45 VCC1_2, 46 GND5, 49 INT, 50 SLEEP, 51 PWRON, 52 BOOT0, 53 BOOT1, 54 DVSOK, 55 EXT_EN, 56 VFB3, 57 GND3, 58 SW3, 59 VCC3, 60 VCC4, 61 SW4, 62 GND4, 63 VFB4, 64 VREFGND, 65 OSC32KIN, 66 OSC32KOUT, 67 CLK32KOUT2, 68 CLK32KOUT1, 69 EXP
text: BUCK1 - CH1; 0.7~1.5V, 5A; BUCK2 - CH2; BUCK3 - CH3; 1~1.8V, 3A; BUCK4 - CH4; 1.8~3.3V, 2.5A; LDO1 - CH6, 150mA; LDO2 - CH7, 150mA; LDO3 - CH8, 100mA, low noise; LDO7 - CH12, 300mA; SWITCH1 - CH14, 300mA; LDO4 - CH9, 150mA; LDO5 - CH10, 300mA; LDO6 - CH11, 150mA; LDO8 - CH13, 300mA; SWITCH2 - CH15, 300mA

## RK808-D_QFN68
designator U?, comment RK808  (value not drawn)
IC, Regulator PMIC, RK3399; MANF: Rockchip; MANF_P#: RK808-D; PARAM2: 2.75~5.5Vin, 4 DCDC/ 8 LDO, 2 switch; PARAM: RK3399, -40~85°C; PRICE: -; VALUE: RK808; PACKAGE: QFN-68, 0.35mm pitch
footprint QFN35_68T (QFN, 68-Leads, 7x7mm, Pitch 0.35mm,)
pins: 1 VCC10, 2 VLDO6, 3 VLDO3, 4 VCC7, 5 VLDO7, 6 VPPOTP, 7 VSWOUT1, 8 VCC8, 9 VCCRTC, 10 VCC12, 11 VSWOUT2, 12 VLDO4, 13 VCC9, 14 VLDO5, 15 VLDO8, 16 VCC11, 17 VDDIO, 18 SDA, 19 SCL, 20 NRESPWRON, 21 DVS2, 22 DVS1, 23 VCC2_1, 24 VCC2_2, 25 SW2_1, 26 SW2_2, 27 GND2_1, 28 GND2_2, 29 VFB2, 30 AGND, 31 VLDO1, 32 VCC6, 33 VLDO2, 34 VDC, 35 VLDOA, 36 VCCA, 37 VREF, 38 DGND, 39 VFB1, 40 GND1_1, 41 GND1_2, 42 SW1_1, 43 SW1_2, 44 VCC1_1, 45 VCC1_2, 46 GND5, 49 INT, 50 SLEEP, 51 PWRON, 52 BOOT0, 53 BOOT1, 54 DVSOK, 55 EXT_EN, 56 VFB3, 57 GND3, 58 SW3, 59 VCC3, 60 VCC4, 61 SW4, 62 GND4, 63 VFB4, 64 VREFGND, 65 OSC32KIN, 66 OSC32KOUT, 67 CLK32KOUT2, 68 CLK32KOUT1, 69 EXP
text: BUCK1 - CH1; 0.7~1.5V, 5A; BUCK2 - CH2; BUCK3 - CH3; 1~1.8V, 3A; BUCK4 - CH4; 1.8~3.3V, 2.5A; LDO1 - CH6, 150mA; LDO2 - CH7, 150mA; LDO3 - CH8, 100mA, low noise; LDO7 - CH12, 300mA; SWITCH1 - CH14, 300mA; LDO4 - CH9, 150mA; LDO5 - CH10, 300mA; LDO6 - CH11, 150mA; LDO8 - CH13, 300mA; SWITCH2 - CH15, 300mA

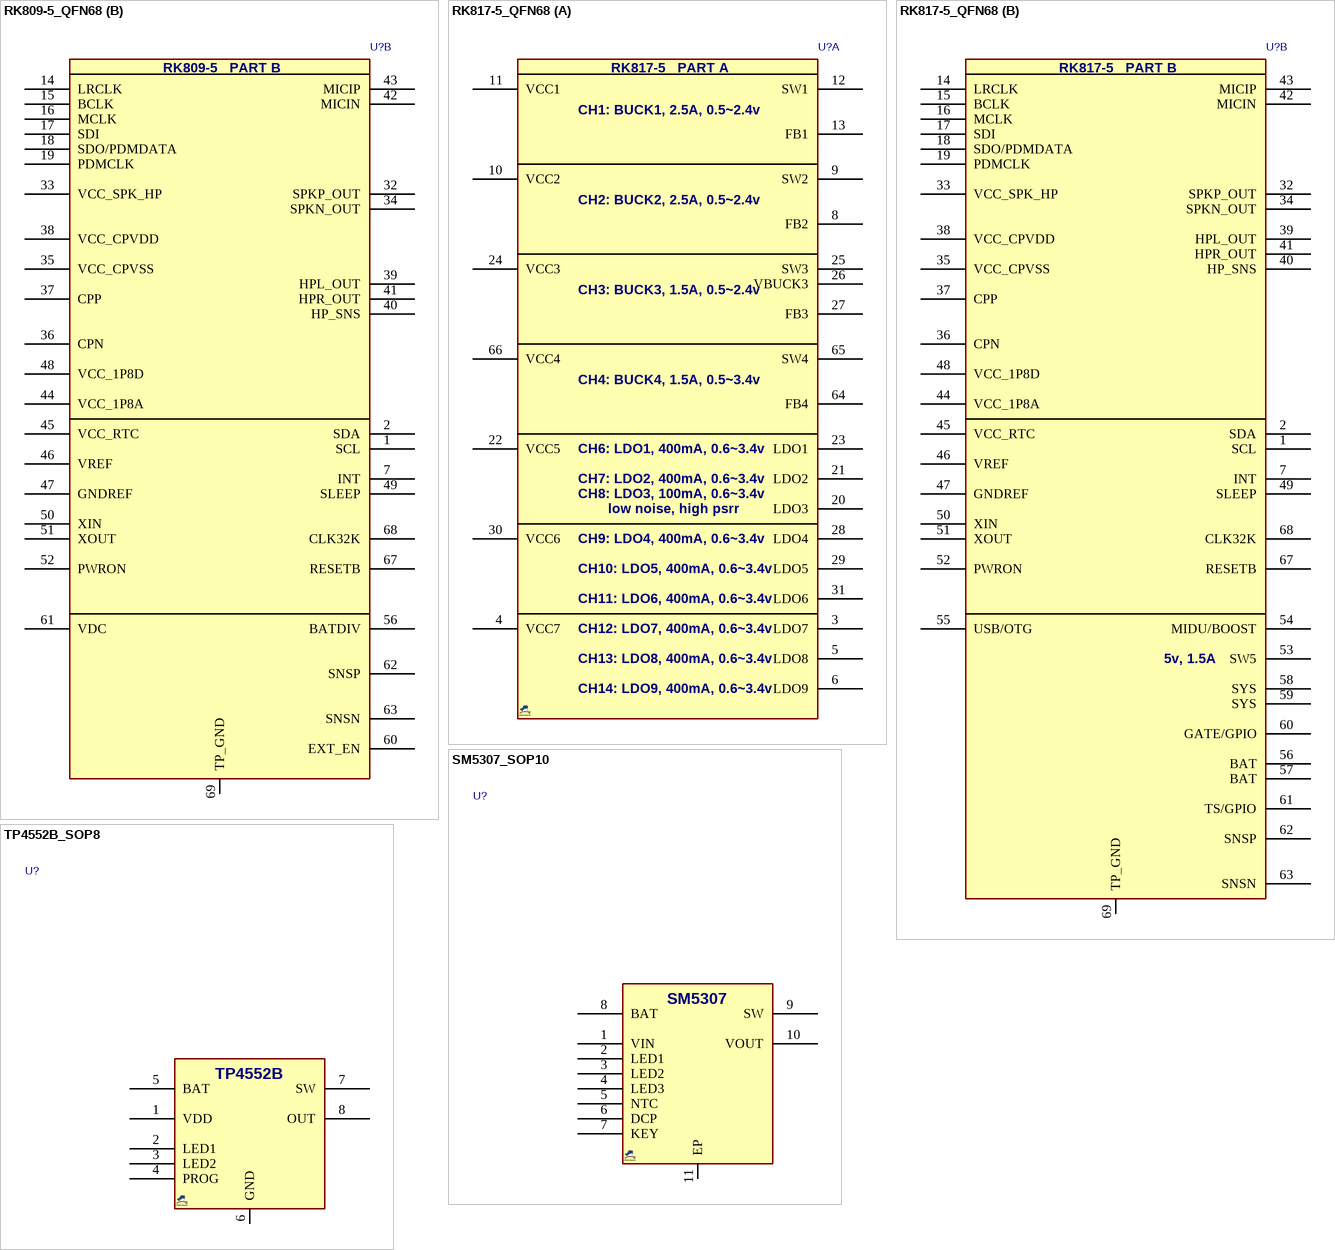
[diagram p6: symbols RK809-5_QFN68 to TP4552B_SOP8]

## RK809-5_QFN68
designator U?, comment RK809-5  (value not drawn)
IC, Regulator PMIC, for RK3566; MANF: Rockchip; PARAM2: 3.8~5.5VUSBinput, 2.7~5.5VBATinput, 5DCDC/9LDO/2SW; PARAM: RK3566, -40~85°C; MANF_P#: RK809-5; PRICE: -; VALUE: RK809-5; PACKAGE: QFN-68, 0.35mm pitch
footprint QFN35_68T (QFN, 68-Leads, 7x7mm, Pitch 0.35mm,)
part A pins: 3 LDO7, 4 VCC7, 5 LDO8, 6 LDO9, 8 FB2, 9 SW2, 10 VCC2, 11 VCC1, 12 SW1, 13 FB1, 20 LDO3, 21 LDO2, 22 VCC5, 23 LDO1, 24 VCC3, 25 SW3, 26 VBUCK3, 27 FB3, 28 LDO4, 29 LDO5, 30 VCC6, 31 LDO6, 53 SW5, 54 VCC9, 55 SWOUT1, 57 VCC8, 58 SWOUT2, 59 FB5, 64 FB4, 65 SW4, 66 VCC4
part B pins: 1 SCL, 2 SDA, 7 INT, 14 LRCLK, 15 BCLK, 16 MCLK, 17 SDI, 18 SDO/PDMDATA, 19 PDMCLK, 32 SPKP_OUT, 33 VCC_SPK_HP, 34 SPKN_OUT, 35 VCC_CPVSS, 36 CPN, 37 CPP, 38 VCC_CPVDD, 39 HPL_OUT, 40 HP_SNS, 41 HPR_OUT, 42 MICIN, 43 MICIP, 44 VCC_1P8A, 45 VCC_RTC, 46 VREF, 47 GNDREF, 48 VCC_1P8D, 49 SLEEP, 50 XIN, 51 XOUT, 52 PWRON, 56 BATDIV, 60 EXT_EN, 61 VDC, 62 SNSP, 63 SNSN, 67 RESETB, 68 CLK32K, 69 TP_GND
part A text: RK809-5   PART A; CH1: BUCK1, 2.5A, 0.5~2.4v; CH2: BUCK2, 2.5A, 0.5~2.4v; CH3: BUCK3, 1.5A, 0.5~2.4v; VFB= 0.8v; CH4: BUCK4, 1.5A, 0.5~3.4v; CH5: BUCK5, 2.5A, 1.5~3.6v; CH15: Switch1, 1.5A; CH16: Switch2, 3A; CH6: LDO1, 400mA, 0.6~3.4v; CH7: LDO2, 400mA, 0.6~3.4v; CH8: LDO3, 100mA, 0.6~3.4v; low noise, high psrr; CH9: LDO4, 400mA, 0.6~3.4v; CH10: LDO5, 400mA, 0.6~3.4v; CH11: LDO6, 400mA, 0.6~3.4v; CH12: LDO7, 400mA, 0.6~3.4v; CH13: LDO8, 400mA, 0.6~3.4v; CH14: LDO9, 400mA, 0.6~3.4v
part B text: RK809-5   PART B

## RK817-5_QFN68
designator U?, comment RK817-5  (value not drawn)
IC, Regulator PMIC, for RK3566; MANF: Rockchip; PARAM2: 3.8~5.5VUSBinput, 2.7~5.5VBATinput, 5DCDC/ 9LDO; PARAM: RK3566, -40~85°C; MANF_P#: RK817-5; PRICE: -; VALUE: RK817-5; PACKAGE: QFN-68, 0.35mm pitch
footprint QFN35_68T (QFN, 68-Leads, 7x7mm, Pitch 0.35mm,)
part A pins: 3 LDO7, 4 VCC7, 5 LDO8, 6 LDO9, 8 FB2, 9 SW2, 10 VCC2, 11 VCC1, 12 SW1, 13 FB1, 20 LDO3, 21 LDO2, 22 VCC5, 23 LDO1, 24 VCC3, 25 SW3, 26 VBUCK3, 27 FB3, 28 LDO4, 29 LDO5, 30 VCC6, 31 LDO6, 64 FB4, 65 SW4, 66 VCC4
part B pins: 1 SCL, 2 SDA, 7 INT, 14 LRCLK, 15 BCLK, 16 MCLK, 17 SDI, 18 SDO/PDMDATA, 19 PDMCLK, 32 SPKP_OUT, 33 VCC_SPK_HP, 34 SPKN_OUT, 35 VCC_CPVSS, 36 CPN, 37 CPP, 38 VCC_CPVDD, 39 HPL_OUT, 40 HP_SNS, 41 HPR_OUT, 42 MICIN, 43 MICIP, 44 VCC_1P8A, 45 VCC_RTC, 46 VREF, 47 GNDREF, 48 VCC_1P8D, 49 SLEEP, 50 XIN, 51 XOUT, 52 PWRON, 53 SW5, 54 MIDU/BOOST, 55 USB/OTG, 56 BAT, 57 BAT, 58 SYS, 59 SYS, 60 GATE/GPIO, 61 TS/GPIO, 62 SNSP, 63 SNSN, 67 RESETB, 68 CLK32K, 69 TP_GND
part A text: RK817-5   PART A; CH1: BUCK1, 2.5A, 0.5~2.4v; CH2: BUCK2, 2.5A, 0.5~2.4v; CH3: BUCK3, 1.5A, 0.5~2.4v; CH4: BUCK4, 1.5A, 0.5~3.4v; CH6: LDO1, 400mA, 0.6~3.4v; CH7: LDO2, 400mA, 0.6~3.4v; CH8: LDO3, 100mA, 0.6~3.4v; low noise, high psrr; CH9: LDO4, 400mA, 0.6~3.4v; CH10: LDO5, 400mA, 0.6~3.4v; CH11: LDO6, 400mA, 0.6~3.4v; CH12: LDO7, 400mA, 0.6~3.4v; CH13: LDO8, 400mA, 0.6~3.4v; CH14: LDO9, 400mA, 0.6~3.4v
part B text: RK817-5   PART B; 5v, 1.5A

## SM5307_SOP10
designator U?, comment SM5307  (value not drawn)
IC, CHARGER and Boost for USB mobile; PARAM: 2.1A chg, 2.4A boost, 0~70°C; MANF_P#: SM5307; PARAM2: -; PRICE: 0.2$; VALUE: SM5307; PACKAGE: eSOP-10
footprint SOP100_10T (ESSOP-10, 1mm pitch)
pins: 1 VIN, 2 LED1, 3 LED2, 4 LED3, 5 NTC, 6 DCP, 7 KEY, 8 BAT, 9 SW, 10 VOUT, 11 EP

## TP4552B_SOP8
designator U?, comment TP4552B  (value not drawn)
IC, CHARGER and Boost for USB mobile; PARAM: 0.5A chg, 0.4A boost, -20~85°C; MANF_P#: TP4552B; PARAM2: -; PRICE: 0.35$; VALUE: TP4552B; PACKAGE: SOP-8
footprint SO_8 (SOP-8, 5x3.9mm body 1.27mm pitch, SOT96-1, M08A, S8, SOIC8, VO8, MS-012AA(JEDEC), R-8, 8S2, VOG8)
pins: 1 VDD, 2 LED1, 3 LED2, 4 PROG, 5 BAT, 6 GND, 7 SW, 8 OUT

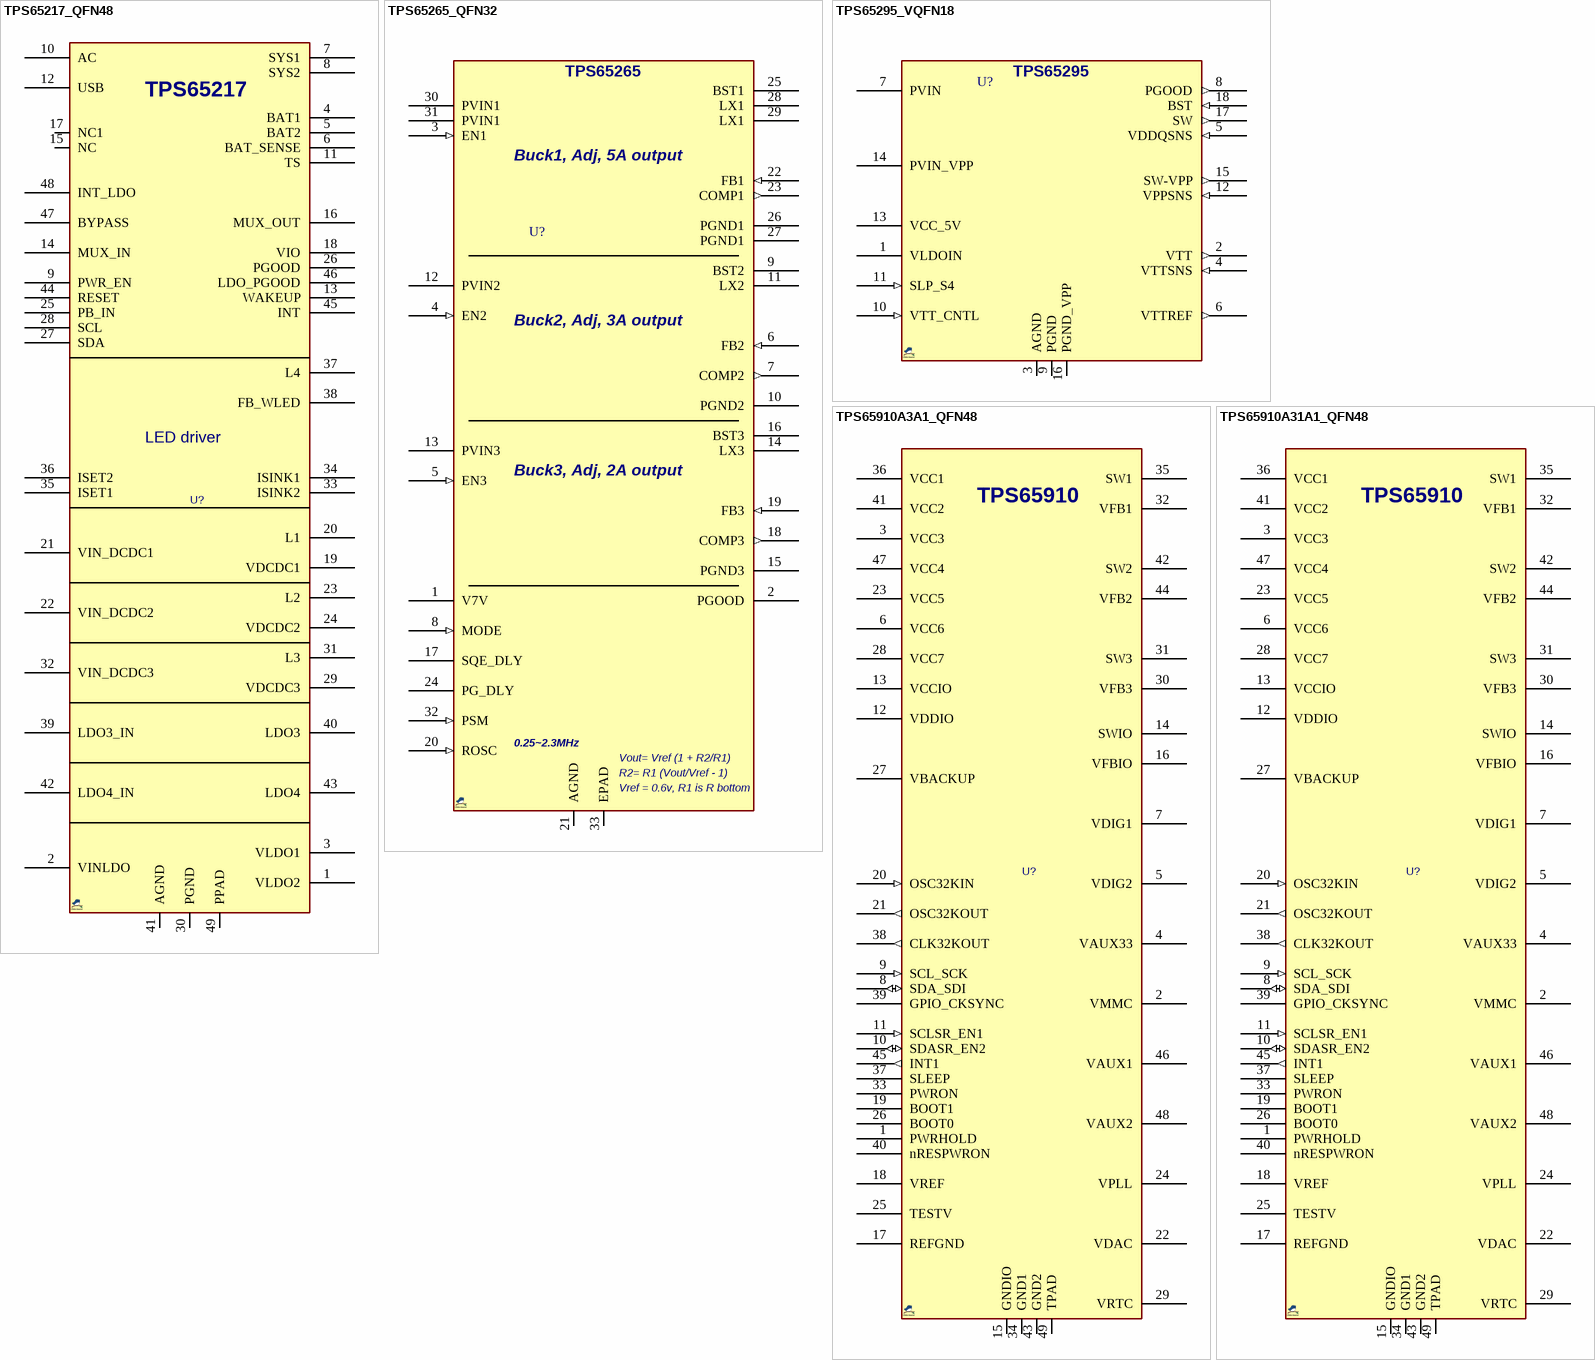
[diagram p7: symbols TPS65217_QFN48 to TPS65910A31A1_QFN48]

## TPS65217_QFN48
designator U?, comment TPS65217  (value not drawn)
IC, Regulator PMIC,; MANF: Texas Instruments; MANF_P#: TPS65217DRSLR; PARAM2: 2.75~5.5V, 3DCDC/ 2+2 LDOs; PARAM: -40~105°C; PRICE: 5.4$; VALUE: TPS65217; PACKAGE: QFN-48, 0.4mm pitch
footprint QFN40_48T (QFN, 48-Leads, Body 6.00x6.00mm, Pitch 0.40mm, Thermal Pad 4.40x4.40mm)
pins: 1 VLDO2, 2 VINLDO, 3 VLDO1, 4 BAT1, 5 BAT2, 6 BAT_SENSE, 7 SYS1, 8 SYS2, 9 PWR_EN, 10 AC, 11 TS, 12 USB, 13 WAKEUP, 14 MUX_IN, 15 NC, 16 MUX_OUT, 17 NC1, 18 VIO, 19 VDCDC1, 20 L1, 21 VIN_DCDC1, 22 VIN_DCDC2, 23 L2, 24 VDCDC2, 25 PB_IN, 26 PGOOD, 27 SDA, 28 SCL, 29 VDCDC3, 30 PGND, 31 L3, 32 VIN_DCDC3, 33 ISINK2, 34 ISINK1, 35 ISET1, 36 ISET2, 37 L4, 38 FB_WLED, 39 LDO3_IN, 40 LDO3, 41 AGND, 42 LDO4_IN, 43 LDO4, 44 RESET, 45 INT, 46 LDO_PGOOD, 47 BYPASS, 48 INT_LDO, 49 PPAD
text: LED driver

## TPS65265_QFN32
designator U?, comment TPS65265  (value not drawn)
PMIC, 3 buck, QFN-32; MANF: Texas Instruments; PARAM: 3 buck, -40~125°C; PARAM2: 4.5~17VIN; MANF_P#: TPS65265RHB; PRICE: 2$; ASSEMBLY: ASSEMBLY; VALUE: TPS65265; PACKAGE: QFN-32, 0.5mm pitch
footprint QFN50_32T (HVQFN32, UFQFPN32, QFN-32, RGJ, 5X5X0.9mm, 0.5mm)
pins: 1 V7V (power), 2 PGOOD (oc), 3 EN1 (in), 4 EN2 (in), 5 EN3 (in), 6 FB2 (in), 7 COMP2 (out), 8 MODE (in), 9 BST2 (power), 10 PGND2 (power), 11 LX2 (power), 12 PVIN2 (power), 13 PVIN3 (power), 14 LX3 (power), 15 PGND3 (power), 16 BST3 (power), 17 SQE_DLY, 18 COMP3 (out), 19 FB3 (in), 20 ROSC (in), 21 AGND (power), 22 FB1 (in), 23 COMP1 (out), 24 PG_DLY, 25 BST1 (power), 26 PGND1 (power), 27 PGND1 (power), 28 LX1 (power), 29 LX1 (power), 30 PVIN1 (power), 31 PVIN1 (power), 32 PSM (in), 33 EPAD (power)
text: Buck1, Adj, 5A output; Buck2, Adj, 3A output; Buck3, Adj, 2A output; 0.25~2.3MHz; Vout= Vref (1 + R2/R1); R2= R1 (Vout/Vref - 1); Vref = 0.6v, R1 is R bottom

## TPS65295_VQFN18
designator U?, comment TPS65295  (value not drawn)
PMIC for DDR4, VQFN-18; MANF: Texas Instruments; PARAM: DDR4 power, -40~125°C; PARAM2: 4.5~18VIN; MANF_P#: TPS65295RJE; PRICE: 4$; ASSEMBLY: ASSEMBLY; VALUE: TPS65295; PACKAGE: QFN-18, 0.5mm pitch
footprint QFN50_18_RJE (VQFN RJE, 18-Leads, Body 3x3mm, Pitch 0.50mm)
pins: 1 VLDOIN (power), 2 VTT (out), 3 AGND, 4 VTTSNS (in), 5 VDDQSNS (in), 6 VTTREF (out), 7 PVIN (power), 8 PGOOD (out), 9 PGND, 10 VTT_CNTL (in), 11 SLP_S4 (in), 12 VPPSNS (in), 13 VCC_5V (power), 14 PVIN_VPP (power), 15 SW-VPP (out), 16 PGND_VPP, 17 SW (out), 18 BST (in)

## TPS65910A3A1_QFN48
designator U?, comment TPS65910  (value not drawn)
IC, Regulator PMIC, DDR3; MANF: Texas Instruments; MANF_P#: TPS65910A3A1RSL; PARAM2: 2.75~5.5Vin, 3 DCDC/ 9 LDO; PARAM: DDR3, -40~85°C; PRICE: 4.3$; VALUE: TPS65910; PACKAGE: QFN-48, 0.4mm pitch
footprint QFN40_48T (QFN, 48-Leads, Body 6.00x6.00mm, Pitch 0.40mm, Thermal Pad 4.40x4.40mm)
pins: 1 PWRHOLD, 2 VMMC (power), 3 VCC3 (power), 4 VAUX33 (power), 5 VDIG2, 6 VCC6, 7 VDIG1, 8 SDA_SDI (io), 9 SCL_SCK (in), 10 SDASR_EN2 (io), 11 SCLSR_EN1 (in), 12 VDDIO, 13 VCCIO (power), 14 SWIO (power), 15 GNDIO (power), 16 VFBIO, 17 REFGND (power), 18 VREF, 19 BOOT1, 20 OSC32KIN (in), 21 OSC32KOUT (out), 22 VDAC (power), 23 VCC5 (power), 24 VPLL (power), 25 TESTV, 26 BOOT0, 27 VBACKUP (power), 28 VCC7, 29 VRTC, 30 VFB3, 31 SW3 (power), 32 VFB1, 33 PWRON, 34 GND1 (power), 35 SW1 (power), 36 VCC1, 37 SLEEP, 38 CLK32KOUT (out), 39 GPIO_CKSYNC, 40 nRESPWRON, 41 VCC2, 42 SW2 (power), 43 GND2 (power), 44 VFB2, 45 INT1 (out), 46 VAUX1 (power), 47 VCC4 (power), 48 VAUX2 (power), 49 TPAD (power)

## TPS65910A31A1_QFN48
designator U?, comment TPS65910  (value not drawn)
IC, Regulator PMIC, DDR3, Full power RTC; MANF: Texas Instruments; MANF_P#: TPS65910A31A1RSL; PARAM2: 2.75~5.5Vin, 3 DCDC/ 9 LDO; PARAM: DDR3, Full power RTC, -40~85°C; PRICE: 4.3$; VALUE: TPS65910; PACKAGE: QFN-48, 0.4mm pitch
footprint QFN40_48T (QFN, 48-Leads, Body 6.00x6.00mm, Pitch 0.40mm, Thermal Pad 4.40x4.40mm)
pins: 1 PWRHOLD, 2 VMMC (power), 3 VCC3 (power), 4 VAUX33 (power), 5 VDIG2, 6 VCC6, 7 VDIG1, 8 SDA_SDI (io), 9 SCL_SCK (in), 10 SDASR_EN2 (io), 11 SCLSR_EN1 (in), 12 VDDIO, 13 VCCIO (power), 14 SWIO (power), 15 GNDIO (power), 16 VFBIO, 17 REFGND (power), 18 VREF, 19 BOOT1, 20 OSC32KIN (in), 21 OSC32KOUT (out), 22 VDAC (power), 23 VCC5 (power), 24 VPLL (power), 25 TESTV, 26 BOOT0, 27 VBACKUP (power), 28 VCC7, 29 VRTC, 30 VFB3, 31 SW3 (power), 32 VFB1, 33 PWRON, 34 GND1 (power), 35 SW1 (power), 36 VCC1, 37 SLEEP, 38 CLK32KOUT (out), 39 GPIO_CKSYNC, 40 nRESPWRON, 41 VCC2, 42 SW2 (power), 43 GND2 (power), 44 VFB2, 45 INT1 (out), 46 VAUX1 (power), 47 VCC4 (power), 48 VAUX2 (power), 49 TPAD (power)

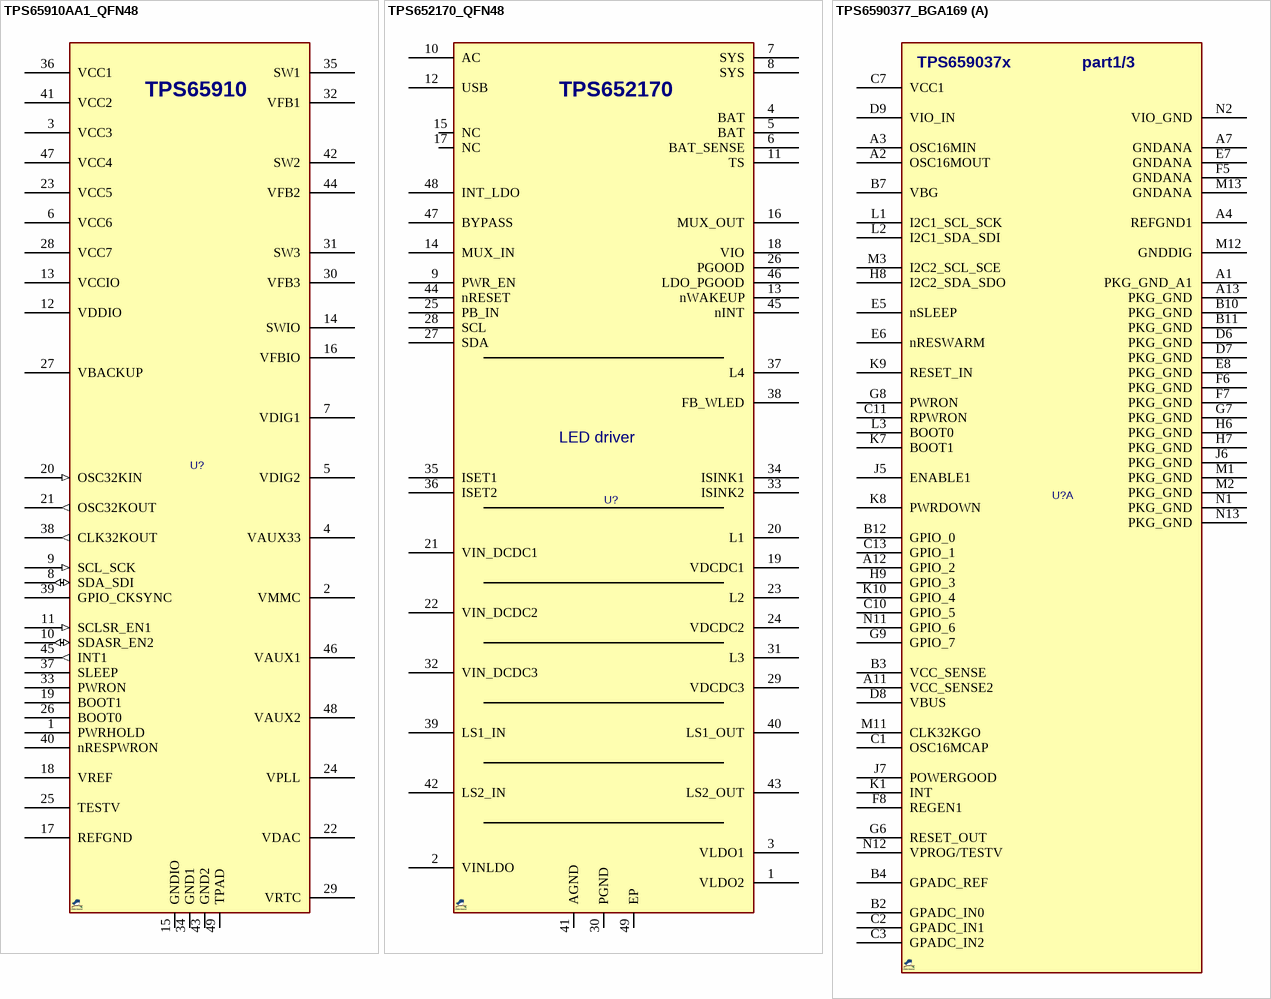
[diagram p8: symbols TPS65910AA1_QFN48 to TPS6590377_BGA169]

## TPS65910AA1_QFN48
designator U?, comment TPS65910  (value not drawn)
IC, Regulator PMIC, DDR2; MANF: Texas Instruments; MANF_P#: TPS65910AA1RSL; PARAM2: 2.75~5.5Vin, 3 DCDC/ 9 LDO; PARAM: DDR2, -40~85°C; PRICE: 4.3$; VALUE: TPS65910; PACKAGE: QFN-48, 0.4mm pitch
footprint QFN40_48T (QFN, 48-Leads, Body 6.00x6.00mm, Pitch 0.40mm, Thermal Pad 4.40x4.40mm)
pins: 1 PWRHOLD, 2 VMMC (power), 3 VCC3 (power), 4 VAUX33 (power), 5 VDIG2, 6 VCC6, 7 VDIG1, 8 SDA_SDI (io), 9 SCL_SCK (in), 10 SDASR_EN2 (io), 11 SCLSR_EN1 (in), 12 VDDIO, 13 VCCIO (power), 14 SWIO (power), 15 GNDIO (power), 16 VFBIO, 17 REFGND (power), 18 VREF, 19 BOOT1, 20 OSC32KIN (in), 21 OSC32KOUT (out), 22 VDAC (power), 23 VCC5 (power), 24 VPLL (power), 25 TESTV, 26 BOOT0, 27 VBACKUP (power), 28 VCC7, 29 VRTC, 30 VFB3, 31 SW3 (power), 32 VFB1, 33 PWRON, 34 GND1 (power), 35 SW1 (power), 36 VCC1, 37 SLEEP, 38 CLK32KOUT (out), 39 GPIO_CKSYNC, 40 nRESPWRON, 41 VCC2, 42 SW2 (power), 43 GND2 (power), 44 VFB2, 45 INT1 (out), 46 VAUX1 (power), 47 VCC4 (power), 48 VAUX2 (power), 49 TPAD (power)

## TPS652170_QFN48
designator U?, comment TPS652170  (value not drawn)
IC, Regulator PMIC,; MANF: Texas Instruments; MANF_P#: TPS652170RSL; PARAM2: 2.75~5.5V, 3DCDC+ 2LDO+2 LoadSwitch; PARAM: -40~105°C; PRICE: 5.4$; VALUE: TPS652170; PACKAGE: QFN-48, 0.4mm pitch
footprint QFN40_48T (QFN, 48-Leads, Body 6.00x6.00mm, Pitch 0.40mm, Thermal Pad 4.40x4.40mm)
pins: 1 VLDO2, 2 VINLDO, 3 VLDO1, 4 BAT, 5 BAT, 6 BAT_SENSE, 7 SYS, 8 SYS, 9 PWR_EN, 10 AC, 11 TS, 12 USB, 13 nWAKEUP, 14 MUX_IN, 15 NC, 16 MUX_OUT, 17 NC, 18 VIO, 19 VDCDC1, 20 L1, 21 VIN_DCDC1, 22 VIN_DCDC2, 23 L2, 24 VDCDC2, 25 PB_IN, 26 PGOOD, 27 SDA, 28 SCL, 29 VDCDC3, 30 PGND, 31 L3, 32 VIN_DCDC3, 33 ISINK2, 34 ISINK1, 35 ISET1, 36 ISET2, 37 L4, 38 FB_WLED, 39 LS1_IN, 40 LS1_OUT, 41 AGND, 42 LS2_IN, 43 LS2_OUT, 44 nRESET, 45 nINT, 46 LDO_PGOOD, 47 BYPASS, 48 INT_LDO, 49 EP
text: LED driver

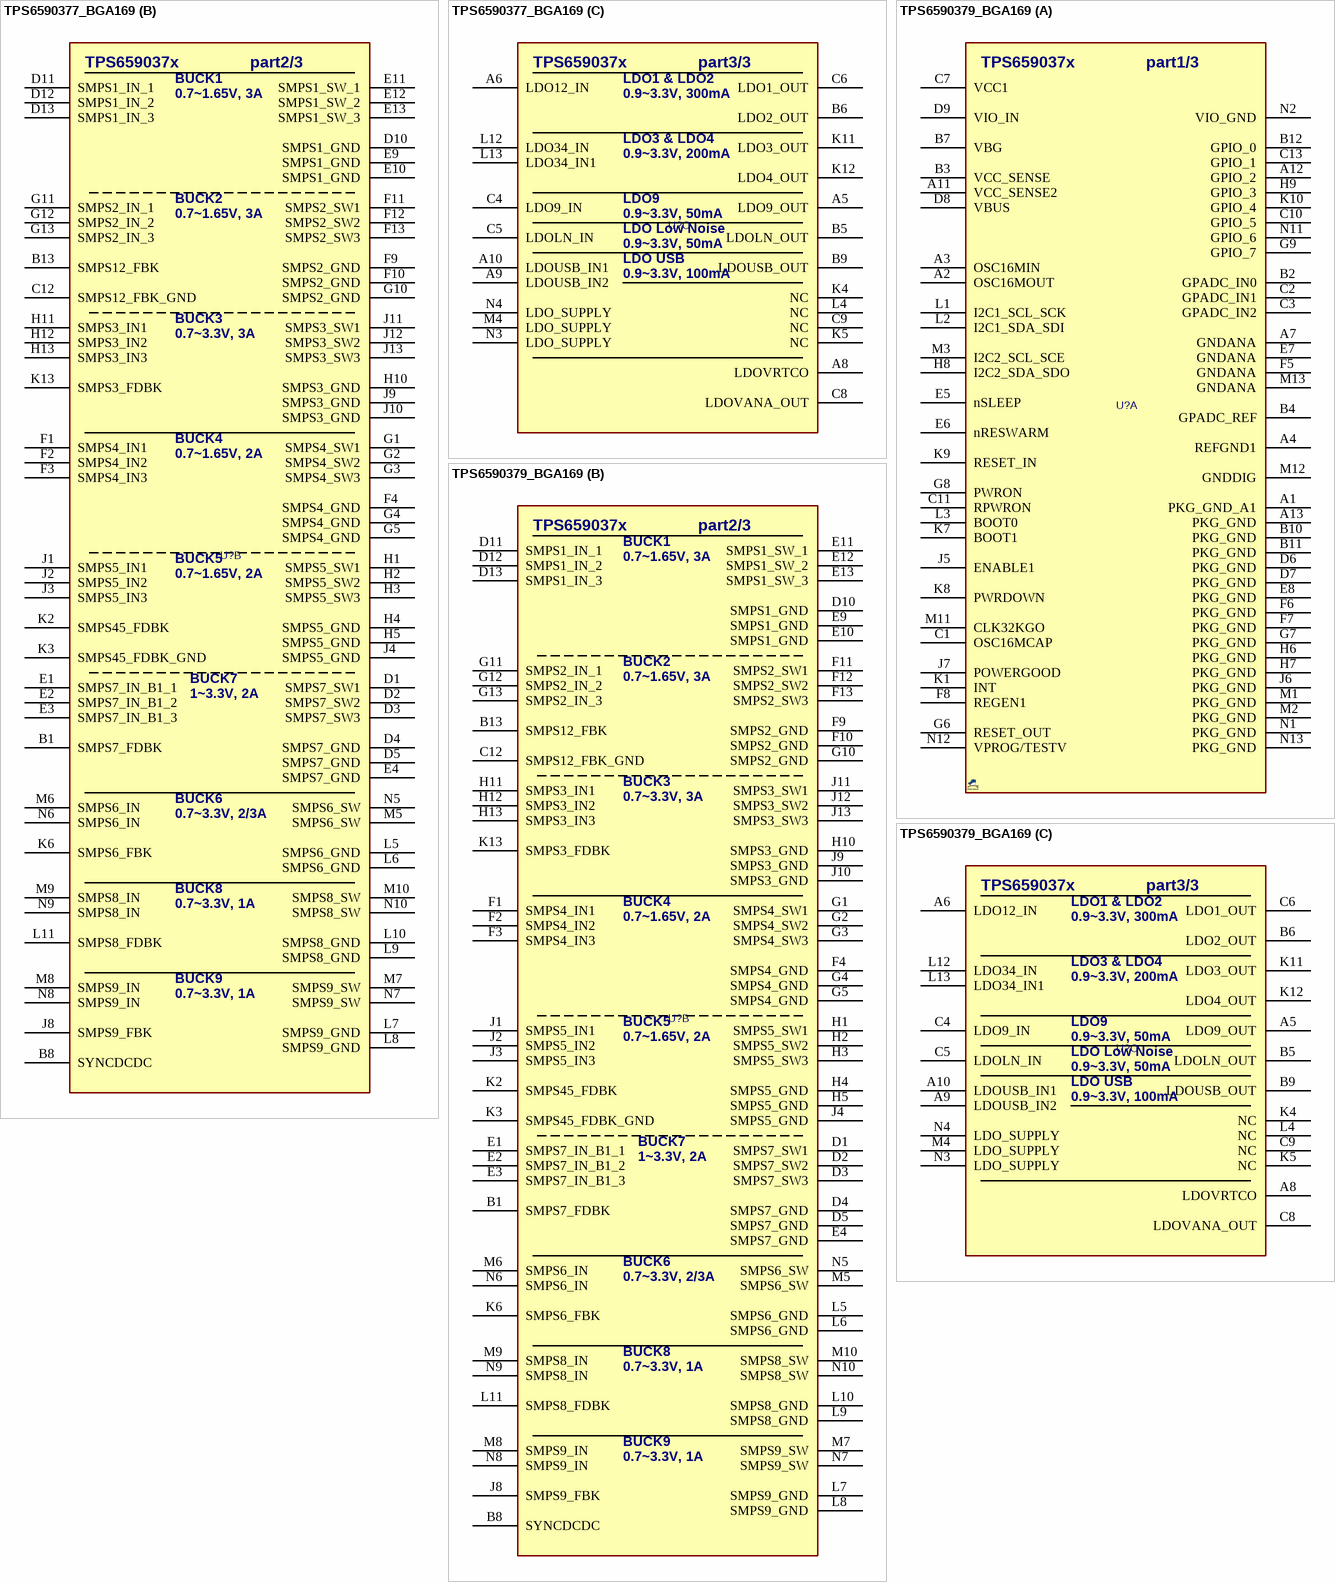
[diagram p9: symbols TPS6590377_BGA169 to TPS6590379_BGA169]

## TPS6590377_BGA169
designator U?, comment TPS6590377  (value not drawn)
IC, Regulator PMIC,; MANF: Texas Instruments; MANF_P#: TPS6590377ZWSR; PARAM2: 3.135~5.25Vin,; PARAM: 7 bucks, 8 LDOs; PRICE: 13$; VALUE: TPS6590377; PACKAGE: BGA-169, 0.8mm pitch
footprint BGA80_169_S12 (ZWS, BGA, 169-Ball, 0.8mm pitch, 12x12x1.4mm)
part A pins: A1 PKG_GND_A1 (power), A2 OSC16MOUT, A3 OSC16MIN, A4 REFGND1 (power), A7 GNDANA (power), A11 VCC_SENSE2, A12 GPIO_2, A13 PKG_GND (power), B2 GPADC_IN0, B3 VCC_SENSE, B4 GPADC_REF, B7 VBG, B10 PKG_GND (power), B11 PKG_GND (power), B12 GPIO_0, C1 OSC16MCAP, C2 GPADC_IN1, C3 GPADC_IN2, C7 VCC1 (power), C10 GPIO_5, C11 RPWRON, C13 GPIO_1, D6 PKG_GND (power), D7 PKG_GND (power), D8 VBUS, D9 VIO_IN (power), E5 nSLEEP, E6 nRESWARM, E7 GNDANA (power), E8 PKG_GND (power), F5 GNDANA (power), F6 PKG_GND (power), F7 PKG_GND (power), F8 REGEN1, G6 RESET_OUT, G7 PKG_GND (power), G8 PWRON, G9 GPIO_7, H6 PKG_GND (power), H7 PKG_GND (power), H8 I2C2_SDA_SDO, H9 GPIO_3, J5 ENABLE1, J6 PKG_GND (power), J7 POWERGOOD, K1 INT, K7 BOOT1, K8 PWRDOWN, K9 RESET_IN, K10 GPIO_4, L1 I2C1_SCL_SCK, L2 I2C1_SDA_SDI, L3 BOOT0, M1 PKG_GND (power), M2 PKG_GND (power), M3 I2C2_SCL_SCE, M11 CLK32KGO, M12 GNDDIG (power), M13 GNDANA (power), N1 PKG_GND (power), N2 VIO_GND (power), N11 GPIO_6, N12 VPROG/TESTV, N13 PKG_GND (power)
part B pins: B1 SMPS7_FDBK, B8 SYNCDCDC, B13 SMPS12_FBK, C12 SMPS12_FBK_GND, D1 SMPS7_SW1 (power), D2 SMPS7_SW2 (power), D3 SMPS7_SW3 (power), D4 SMPS7_GND (power), D5 SMPS7_GND (power), D10 SMPS1_GND (power), D11 SMPS1_IN_1, D12 SMPS1_IN_2, D13 SMPS1_IN_3, E1 SMPS7_IN_B1_1 (power), E2 SMPS7_IN_B1_2 (power), E3 SMPS7_IN_B1_3 (power), E4 SMPS7_GND (power), E9 SMPS1_GND (power), E10 SMPS1_GND (power), E11 SMPS1_SW_1, E12 SMPS1_SW_2, E13 SMPS1_SW_3, F1 SMPS4_IN1, F2 SMPS4_IN2, F3 SMPS4_IN3, F4 SMPS4_GND (power), F9 SMPS2_GND (power), F10 SMPS2_GND (power), F11 SMPS2_SW1, F12 SMPS2_SW2, F13 SMPS2_SW3, G1 SMPS4_SW1, G2 SMPS4_SW2, G3 SMPS4_SW3, G4 SMPS4_GND (power), G5 SMPS4_GND (power), G10 SMPS2_GND (power), G11 SMPS2_IN_1, G12 SMPS2_IN_2, G13 SMPS2_IN_3, H1 SMPS5_SW1, H2 SMPS5_SW2, H3 SMPS5_SW3, H4 SMPS5_GND (power), H5 SMPS5_GND (power), H10 SMPS3_GND (power), H11 SMPS3_IN1, H12 SMPS3_IN2, H13 SMPS3_IN3, J1 SMPS5_IN1, J2 SMPS5_IN2, J3 SMPS5_IN3, J4 SMPS5_GND (power), J8 SMPS9_FBK, J9 SMPS3_GND (power), J10 SMPS3_GND (power), J11 SMPS3_SW1, J12 SMPS3_SW2, J13 SMPS3_SW3, K2 SMPS45_FDBK, K3 SMPS45_FDBK_GND, K6 SMPS6_FBK (power), K13 SMPS3_FDBK, L5 SMPS6_GND (power), L6 SMPS6_GND (power), L7 SMPS9_GND (power), L8 SMPS9_GND (power), L9 SMPS8_GND (power), L10 SMPS8_GND (power), L11 SMPS8_FDBK, M5 SMPS6_SW (power), M6 SMPS6_IN (power), M7 SMPS9_SW (power), M8 SMPS9_IN (power), M9 SMPS8_IN (power), M10 SMPS8_SW (power), N5 SMPS6_SW (power), N6 SMPS6_IN (power), N7 SMPS9_SW (power), N8 SMPS9_IN (power), N9 SMPS8_IN (power), N10 SMPS8_SW (power)
part C pins: A5 LDO9_OUT, A6 LDO12_IN, A8 LDOVRTCO, A9 LDOUSB_IN2, A10 LDOUSB_IN1, B5 LDOLN_OUT, B6 LDO2_OUT, B9 LDOUSB_OUT, C4 LDO9_IN, C5 LDOLN_IN, C6 LDO1_OUT, C8 LDOVANA_OUT, C9 NC, K4 NC, K5 NC, K11 LDO3_OUT, K12 LDO4_OUT, L4 NC, L12 LDO34_IN, L13 LDO34_IN1, M4 LDO_SUPPLY (power), N3 LDO_SUPPLY, N4 LDO_SUPPLY (power)
part A text: TPS659037x; part1/3
part B text: TPS659037x; part2/3; BUCK1; 0.7~1.65V, 3A; BUCK2; BUCK3; 0.7~3.3V, 3A; BUCK4; 0.7~1.65V, 2A; BUCK5; BUCK7; 1~3.3V, 2A; BUCK6; 0.7~3.3V, 2/3A; BUCK8; 0.7~3.3V, 1A; BUCK9
part C text: TPS659037x; part3/3; LDO1 & LDO2; 0.9~3.3V, 300mA; LDO3 & LDO4; 0.9~3.3V, 200mA; LDO9; 0.9~3.3V, 50mA; LDO Low Noise; LDO USB; 0.9~3.3V, 100mA

## TPS6590379_BGA169
designator U?, comment TPS6590379  (value not drawn)
IC, Regulator PMIC,; MANF: Texas Instruments; MANF_P#: TPS6590379ZWSR; PARAM2: 3.135~5.25Vin,; PARAM: 7 bucks, 8 LDOs; PRICE: 13$; VALUE: TPS6590379; PACKAGE: BGA-169, 0.8mm pitch
footprint BGA80_169_S12 (ZWS, BGA, 169-Ball, 0.8mm pitch, 12x12x1.4mm)
part A pins: A1 PKG_GND_A1 (power), A2 OSC16MOUT, A3 OSC16MIN, A4 REFGND1 (power), A7 GNDANA (power), A11 VCC_SENSE2, A12 GPIO_2, A13 PKG_GND (power), B2 GPADC_IN0, B3 VCC_SENSE, B4 GPADC_REF, B7 VBG, B10 PKG_GND (power), B11 PKG_GND (power), B12 GPIO_0, C1 OSC16MCAP, C2 GPADC_IN1, C3 GPADC_IN2, C7 VCC1 (power), C10 GPIO_5, C11 RPWRON, C13 GPIO_1, D6 PKG_GND (power), D7 PKG_GND (power), D8 VBUS, D9 VIO_IN (power), E5 nSLEEP, E6 nRESWARM, E7 GNDANA (power), E8 PKG_GND (power), F5 GNDANA (power), F6 PKG_GND (power), F7 PKG_GND (power), F8 REGEN1, G6 RESET_OUT, G7 PKG_GND (power), G8 PWRON, G9 GPIO_7, H6 PKG_GND (power), H7 PKG_GND (power), H8 I2C2_SDA_SDO, H9 GPIO_3, J5 ENABLE1, J6 PKG_GND (power), J7 POWERGOOD, K1 INT, K7 BOOT1, K8 PWRDOWN, K9 RESET_IN, K10 GPIO_4, L1 I2C1_SCL_SCK, L2 I2C1_SDA_SDI, L3 BOOT0, M1 PKG_GND (power), M2 PKG_GND (power), M3 I2C2_SCL_SCE, M11 CLK32KGO, M12 GNDDIG (power), M13 GNDANA (power), N1 PKG_GND (power), N2 VIO_GND (power), N11 GPIO_6, N12 VPROG/TESTV, N13 PKG_GND (power)
part B pins: B1 SMPS7_FDBK, B8 SYNCDCDC, B13 SMPS12_FBK, C12 SMPS12_FBK_GND, D1 SMPS7_SW1 (power), D2 SMPS7_SW2 (power), D3 SMPS7_SW3 (power), D4 SMPS7_GND (power), D5 SMPS7_GND (power), D10 SMPS1_GND (power), D11 SMPS1_IN_1, D12 SMPS1_IN_2, D13 SMPS1_IN_3, E1 SMPS7_IN_B1_1 (power), E2 SMPS7_IN_B1_2 (power), E3 SMPS7_IN_B1_3 (power), E4 SMPS7_GND (power), E9 SMPS1_GND (power), E10 SMPS1_GND (power), E11 SMPS1_SW_1, E12 SMPS1_SW_2, E13 SMPS1_SW_3, F1 SMPS4_IN1, F2 SMPS4_IN2, F3 SMPS4_IN3, F4 SMPS4_GND (power), F9 SMPS2_GND (power), F10 SMPS2_GND (power), F11 SMPS2_SW1, F12 SMPS2_SW2, F13 SMPS2_SW3, G1 SMPS4_SW1, G2 SMPS4_SW2, G3 SMPS4_SW3, G4 SMPS4_GND (power), G5 SMPS4_GND (power), G10 SMPS2_GND (power), G11 SMPS2_IN_1, G12 SMPS2_IN_2, G13 SMPS2_IN_3, H1 SMPS5_SW1, H2 SMPS5_SW2, H3 SMPS5_SW3, H4 SMPS5_GND (power), H5 SMPS5_GND (power), H10 SMPS3_GND (power), H11 SMPS3_IN1, H12 SMPS3_IN2, H13 SMPS3_IN3, J1 SMPS5_IN1, J2 SMPS5_IN2, J3 SMPS5_IN3, J4 SMPS5_GND (power), J8 SMPS9_FBK, J9 SMPS3_GND (power), J10 SMPS3_GND (power), J11 SMPS3_SW1, J12 SMPS3_SW2, J13 SMPS3_SW3, K2 SMPS45_FDBK, K3 SMPS45_FDBK_GND, K6 SMPS6_FBK (power), K13 SMPS3_FDBK, L5 SMPS6_GND (power), L6 SMPS6_GND (power), L7 SMPS9_GND (power), L8 SMPS9_GND (power), L9 SMPS8_GND (power), L10 SMPS8_GND (power), L11 SMPS8_FDBK, M5 SMPS6_SW (power), M6 SMPS6_IN (power), M7 SMPS9_SW (power), M8 SMPS9_IN (power), M9 SMPS8_IN (power), M10 SMPS8_SW (power), N5 SMPS6_SW (power), N6 SMPS6_IN (power), N7 SMPS9_SW (power), N8 SMPS9_IN (power), N9 SMPS8_IN (power), N10 SMPS8_SW (power)
part C pins: A5 LDO9_OUT, A6 LDO12_IN, A8 LDOVRTCO, A9 LDOUSB_IN2, A10 LDOUSB_IN1, B5 LDOLN_OUT, B6 LDO2_OUT, B9 LDOUSB_OUT, C4 LDO9_IN, C5 LDOLN_IN, C6 LDO1_OUT, C8 LDOVANA_OUT, C9 NC, K4 NC, K5 NC, K11 LDO3_OUT, K12 LDO4_OUT, L4 NC, L12 LDO34_IN, L13 LDO34_IN1, M4 LDO_SUPPLY (power), N3 LDO_SUPPLY, N4 LDO_SUPPLY (power)
part A text: TPS659037x; part1/3
part B text: TPS659037x; part2/3; BUCK1; 0.7~1.65V, 3A; BUCK2; BUCK3; 0.7~3.3V, 3A; BUCK4; 0.7~1.65V, 2A; BUCK5; BUCK7; 1~3.3V, 2A; BUCK6; 0.7~3.3V, 2/3A; BUCK8; 0.7~3.3V, 1A; BUCK9
part C text: TPS659037x; part3/3; LDO1 & LDO2; 0.9~3.3V, 300mA; LDO3 & LDO4; 0.9~3.3V, 200mA; LDO9; 0.9~3.3V, 50mA; LDO Low Noise; LDO USB; 0.9~3.3V, 100mA